# Altium schematic symbol library Apalis-Smart-Vision-Baseboard.SCHLIB: 164 symbols
Pins are listed as number, name and electrical type; pins without a type are passive.

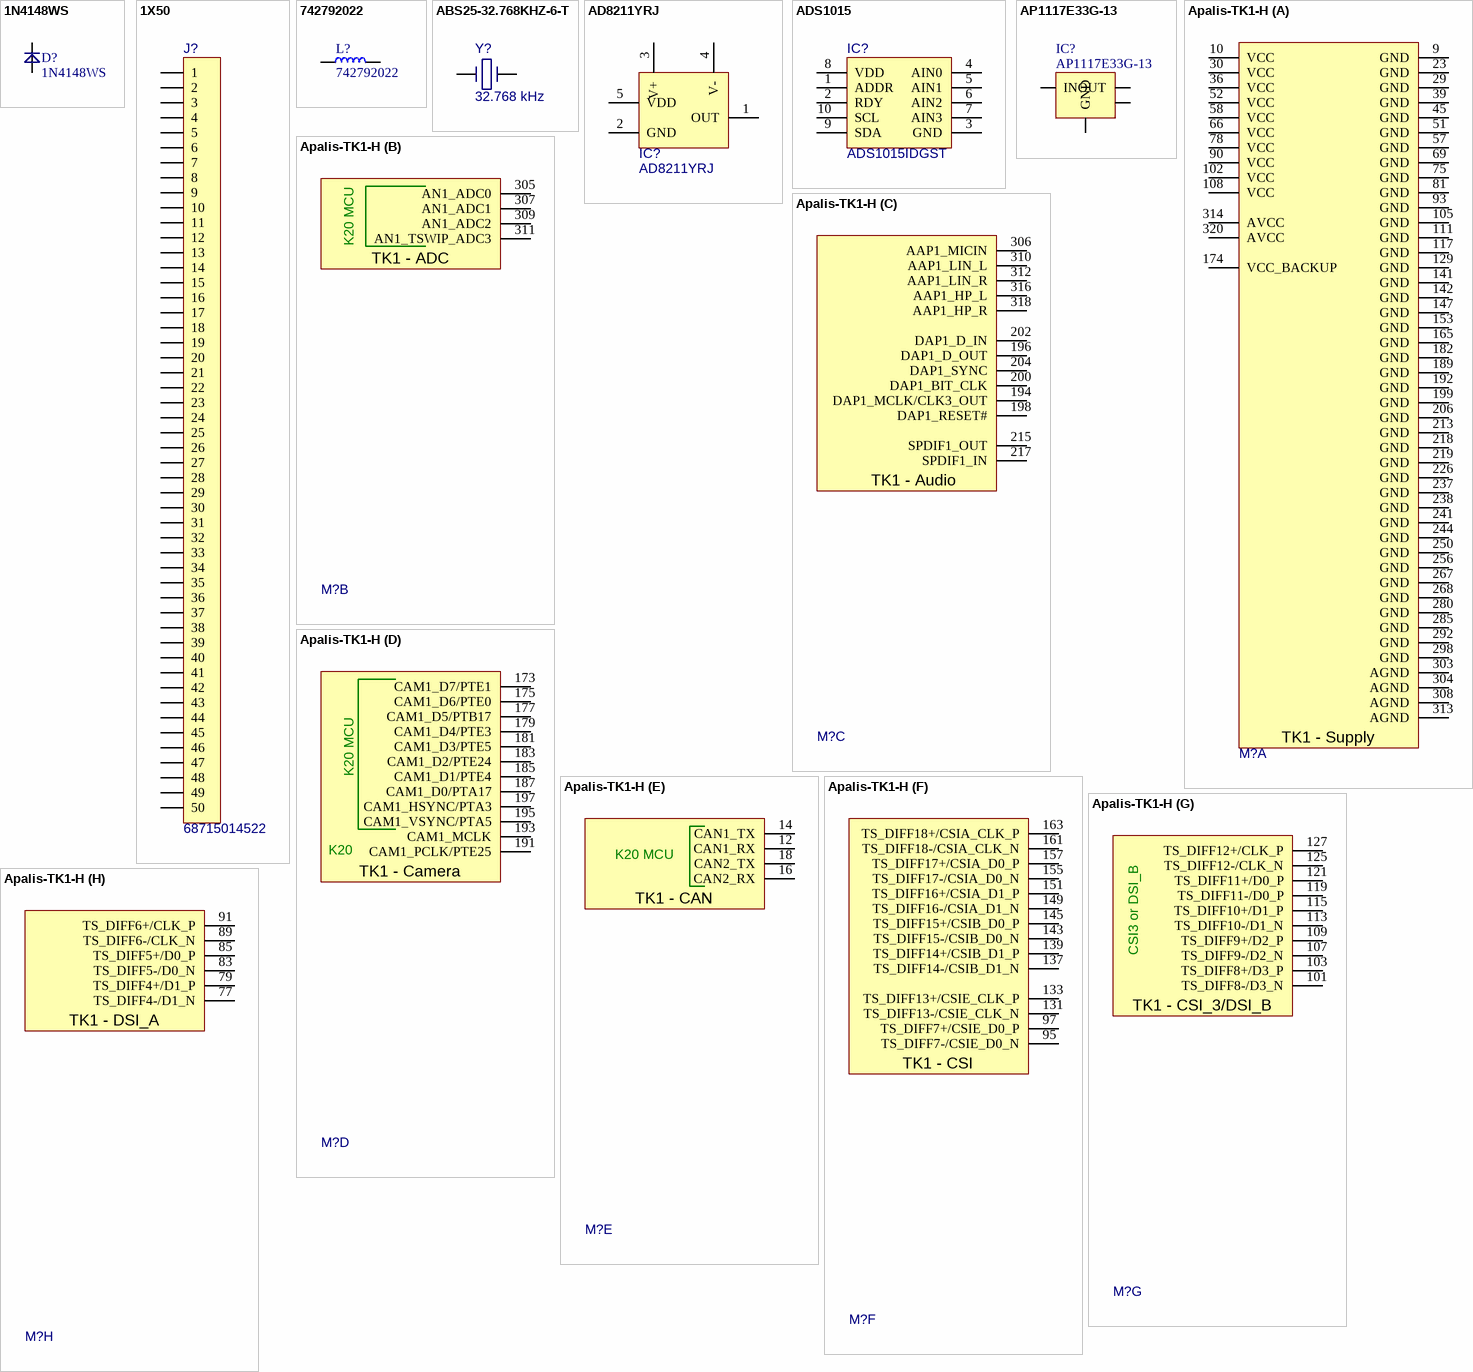
[diagram p0: symbols 1N4148WS to Apalis-TK1-H]

## 1N4148WS
designator D?
Diode small signal; Manufacturer: MULTICOMP; PartNumber: 1N4148WS; Value: 1N4148WS; PartSymbol: 1N4148WS
footprint SOD-323
pins: A, C

## 1X50
designator J?, comment 68715014522
0.50mm SMT ZIF Horizontal Bottom Contact WR-FPC; Manufacturer: WURTH ELEKTRONIK; Part Number: WE-687-150-145-22; Value: 68715014522; Part Symbol: 68715014522
footprint 68715014522
pins: 1, 2, 3, 4, 5, 6, 7, 8, 9, 10, 11, 12, 13, 14, 15, 16, 17, 18, 19, 20, 21, 22, 23, 24, 25, 26, 27, 28, 29, 30, 31, 32, 33, 34, 35, 36, 37, 38, 39, 40, 41, 42, 43, 44, 45, 46, 47, 48, 49, 50

## 742792022
designator L?
WURTH ELEKTRONIK - 742792022 - FERRITE BEAD, 0.05OHM, 2A, 0805; Part Number: 742792022; Value: 742792022; Manufacturer: WURTH ELEKTRONIK; Part Symbol: 742792022
footprint 0805
pins: 1, 2

## ABS25-32.768KHZ-6-T
designator Y?, comment 32.768 kHz
CRYSTAL, 32.768KHz, 6PF, SMD; Part Number: ABS25-32.768KHZ-6-T; Manufacturer: ABRACON; Part Symbol: ABS25-32.768KHZ-6-T; Value: 32.768 kHz
footprint ABS25
pins: 1, 2

## AD8211YRJ
designator IC?
Current Sense Amplifiers High Voltage Current Shunt Amplifier; Manufacturer: ANALOG DEVICES; Part Symbol: AD8211YRJ; Value: AD8211YRJ
pins: 1 OUT, 2 GND, 3 V+, 4 V-, 5 VDD

## ADS1015
designator IC?, comment ADS1015IDGST
ADC 12BIT 4CH I2C; Manufacturer: TEXAS INSTRUMENTS; Part Number: ADS1015IDGST; Value: ADS1015IDGST; Part Symbol: ADS1015IDGST
footprint MSOP10
pins: 1 ADDR, 2 RDY, 3 GND, 4 AIN0, 5 AIN1, 6 AIN2, 7 AIN3, 8 VDD, 9 SDA, 10 SCL

## AP1117E33G-13
designator IC?
IC, LDO, REG, 3.3V, SOT223; Manufacturer: DIODES INC.; Part Number: AP1117E33G-13; Part Symbol: AP1117E33G-13; Value: AP1117E33G-13
footprint SOT223
pins: 1 GND (power), 2 OUT, 3 IN (power), 4 OUT

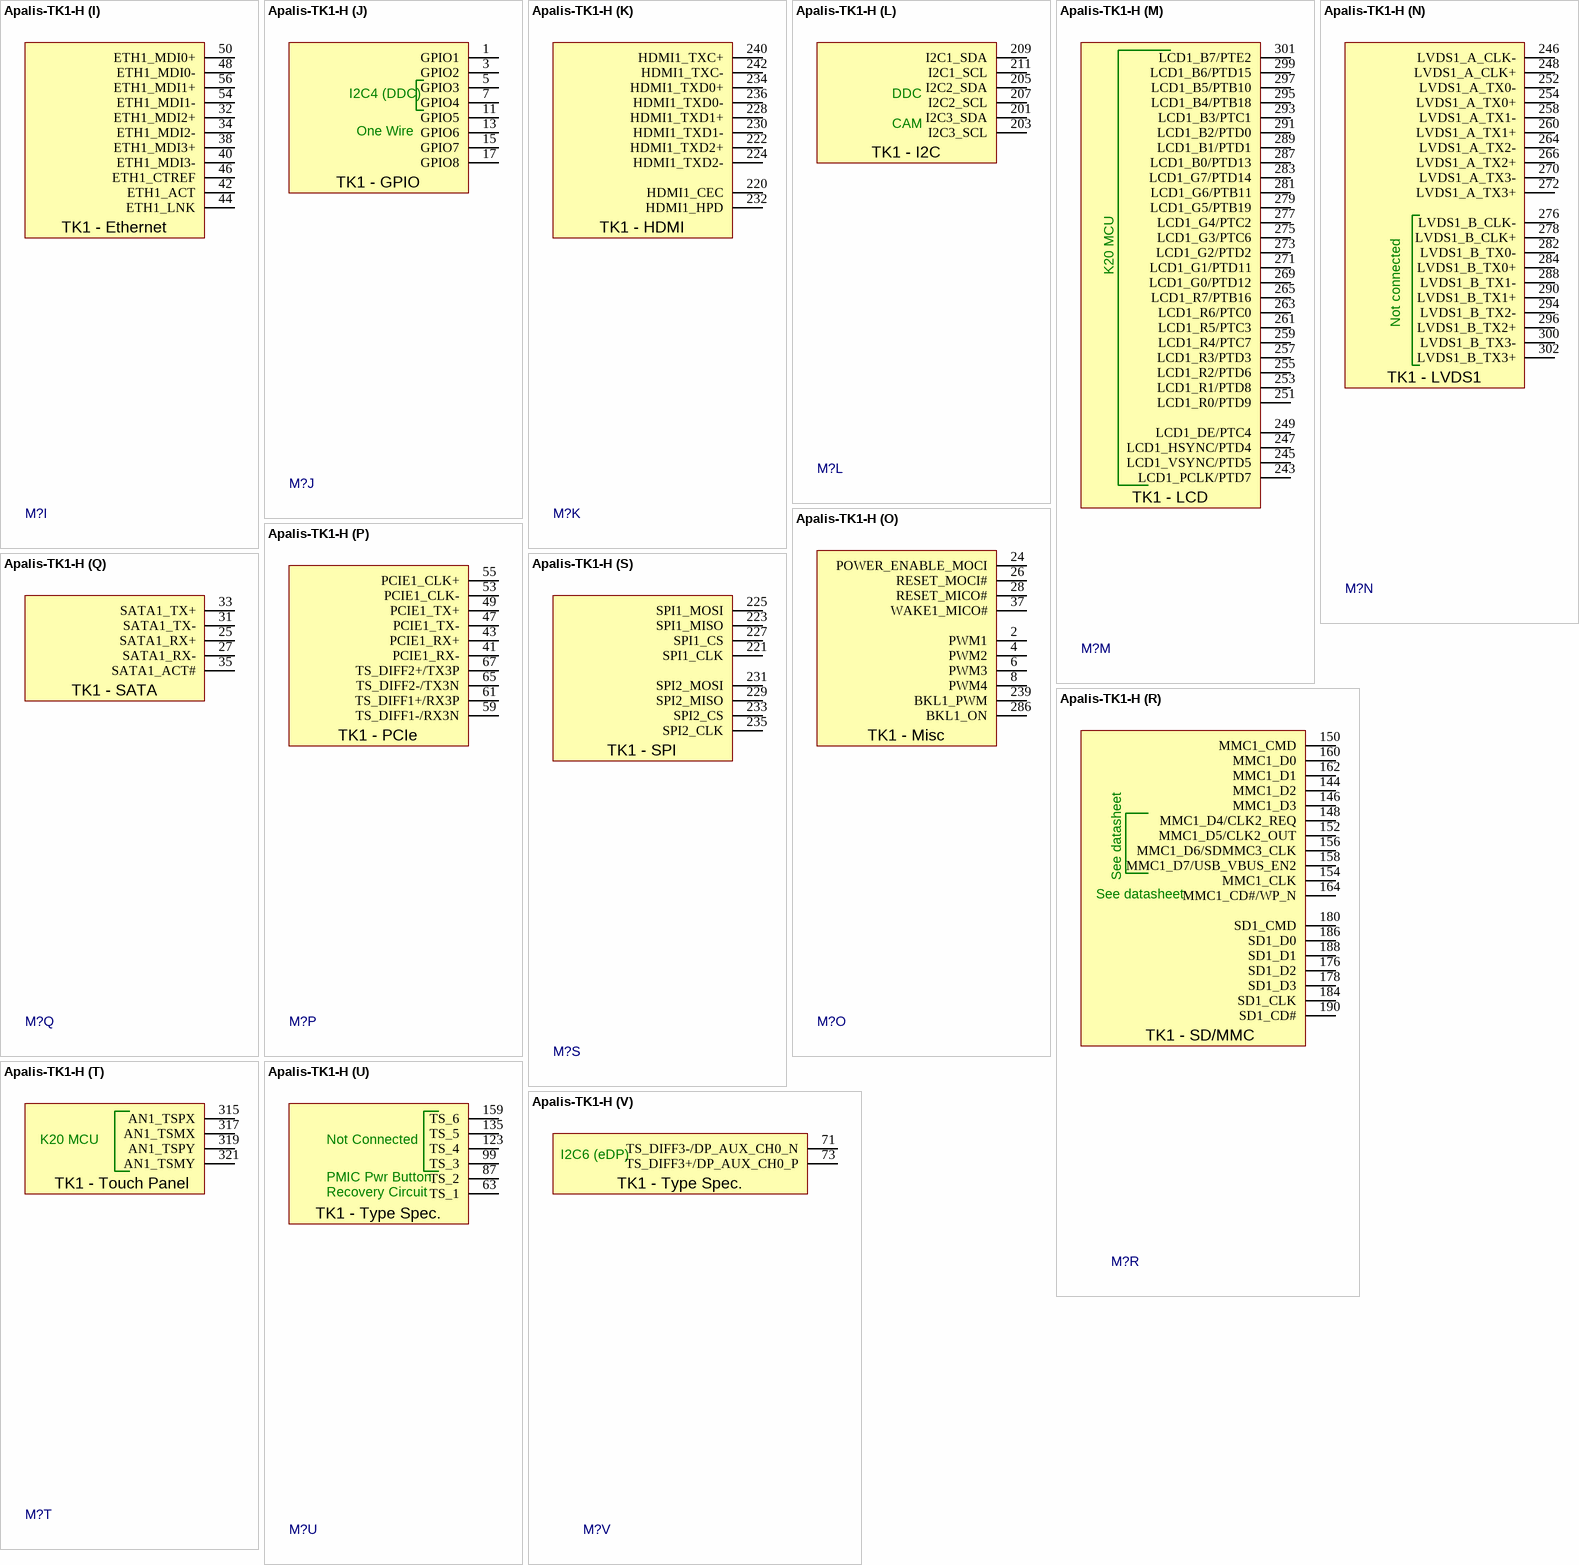
[diagram p1: symbol Apalis-TK1-H]

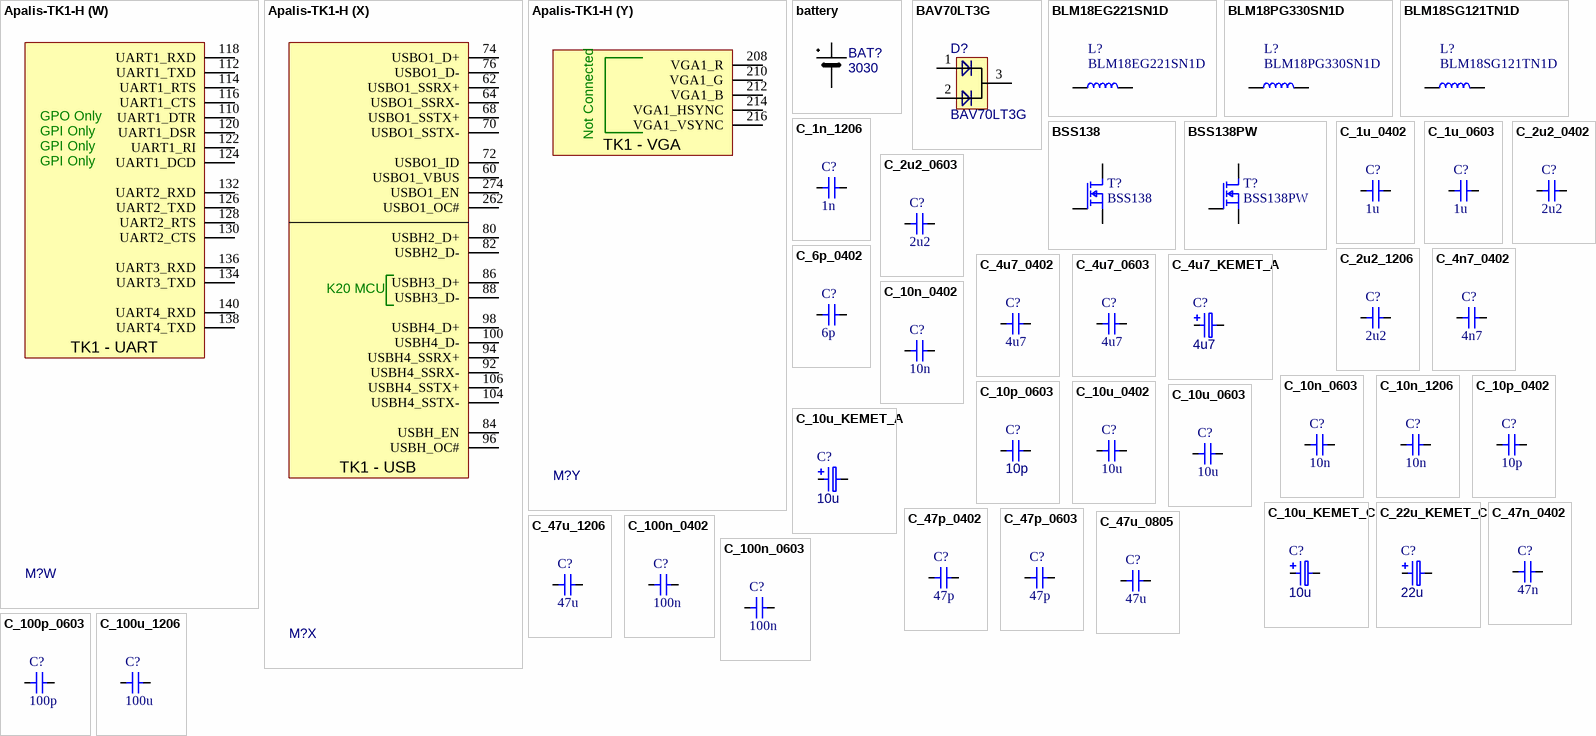
[diagram p2: symbols Apalis-TK1-H to C_100u_1206]

## Apalis-TK1-H
designator M?, comment MM70-314-310B1  (value not drawn)
Toradex Apalis TK1, Horizontal; Part Number: Apalis-TK1-H; Manufacturer: JAE Electronics; Part Symbol: MM70-314-310B1; Value: MM70-314-310B1
footprint Apalis-H
part A pins: 9 GND, 10 VCC, 23 GND, 29 GND (power), 30 VCC, 36 VCC, 39 GND (power), 45 GND (power), 51 GND (power), 52 VCC, 57 GND (power), 58 VCC, 66 VCC, 69 GND (power), 75 GND (power), 78 VCC, 81 GND (power), 90 VCC, 93 GND (power), 102 VCC, 105 GND (power), 108 VCC, 111 GND (power), 117 GND (power), 129 GND (power), 141 GND (power), 142 GND (power), 147 GND (power), 153 GND (power), 165 GND (power), 174 VCC_BACKUP, 182 GND (power), 189 GND (power), 192 GND (power), 199 GND (power), 206 GND (power), 213 GND (power), 218 GND (power), 219 GND (power), 226 GND (power), 237 GND (power), 238 GND (power), 241 GND (power), 244 GND (power), 250 GND (power), 256 GND (power), 267 GND (power), 268 GND (power), 280 GND (power), 285 GND (power), 292 GND (power), 298 GND (power), 303 AGND (power), 304 AGND (power), 308 AGND (power), 313 AGND, 314 AVCC (power), 320 AVCC
part B pins: 305 AN1_ADC0, 307 AN1_ADC1, 309 AN1_ADC2, 311 AN1_TSWIP_ADC3
part C pins: 194 DAP1_MCLK/CLK3_OUT, 196 DAP1_D_OUT, 198 DAP1_RESET#, 200 DAP1_BIT_CLK, 202 DAP1_D_IN, 204 DAP1_SYNC, 215 SPDIF1_OUT, 217 SPDIF1_IN, 306 AAP1_MICIN, 310 AAP1_LIN_L, 312 AAP1_LIN_R, 316 AAP1_HP_L, 318 AAP1_HP_R
part D pins: 173 CAM1_D7/PTE1, 175 CAM1_D6/PTE0, 177 CAM1_D5/PTB17, 179 CAM1_D4/PTE3, 181 CAM1_D3/PTE5, 183 CAM1_D2/PTE24, 185 CAM1_D1/PTE4, 187 CAM1_D0/PTA17, 191 CAM1_PCLK/PTE25, 193 CAM1_MCLK, 195 CAM1_VSYNC/PTA5, 197 CAM1_HSYNC/PTA3
part E pins: 12 CAN1_RX, 14 CAN1_TX, 16 CAN2_RX, 18 CAN2_TX
part F pins: 95 TS_DIFF7-/CSIE_D0_N, 97 TS_DIFF7+/CSIE_D0_P, 131 TS_DIFF13-/CSIE_CLK_N, 133 TS_DIFF13+/CSIE_CLK_P, 137 TS_DIFF14-/CSIB_D1_N, 139 TS_DIFF14+/CSIB_D1_P, 143 TS_DIFF15-/CSIB_D0_N, 145 TS_DIFF15+/CSIB_D0_P, 149 TS_DIFF16-/CSIA_D1_N, 151 TS_DIFF16+/CSIA_D1_P, 155 TS_DIFF17-/CSIA_D0_N, 157 TS_DIFF17+/CSIA_D0_P, 161 TS_DIFF18-/CSIA_CLK_N, 163 TS_DIFF18+/CSIA_CLK_P
part G pins: 101 TS_DIFF8-/D3_N, 103 TS_DIFF8+/D3_P, 107 TS_DIFF9-/D2_N, 109 TS_DIFF9+/D2_P, 113 TS_DIFF10-/D1_N, 115 TS_DIFF10+/D1_P, 119 TS_DIFF11-/D0_P, 121 TS_DIFF11+/D0_P, 125 TS_DIFF12-/CLK_N, 127 TS_DIFF12+/CLK_P
part H pins: 77 TS_DIFF4-/D1_N, 79 TS_DIFF4+/D1_P, 83 TS_DIFF5-/D0_N, 85 TS_DIFF5+/D0_P, 89 TS_DIFF6-/CLK_N, 91 TS_DIFF6+/CLK_P
part I pins: 32 ETH1_MDI2+, 34 ETH1_MDI2-, 38 ETH1_MDI3+, 40 ETH1_MDI3-, 42 ETH1_ACT, 44 ETH1_LNK, 46 ETH1_CTREF, 48 ETH1_MDI0-, 50 ETH1_MDI0+, 54 ETH1_MDI1-, 56 ETH1_MDI1+
part J pins: 1 GPIO1, 3 GPIO2, 5 GPIO3, 7 GPIO4, 11 GPIO5, 13 GPIO6, 15 GPIO7, 17 GPIO8
part K pins: 220 HDMI1_CEC, 222 HDMI1_TXD2+, 224 HDMI1_TXD2-, 228 HDMI1_TXD1+, 230 HDMI1_TXD1-, 232 HDMI1_HPD, 234 HDMI1_TXD0+, 236 HDMI1_TXD0-, 240 HDMI1_TXC+, 242 HDMI1_TXC-
part L pins: 201 I2C3_SDA, 203 I2C3_SCL, 205 I2C2_SDA, 207 I2C2_SCL, 209 I2C1_SDA, 211 I2C1_SCL
part M pins: 243 LCD1_PCLK/PTD7, 245 LCD1_VSYNC/PTD5, 247 LCD1_HSYNC/PTD4, 249 LCD1_DE/PTC4, 251 LCD1_R0/PTD9, 253 LCD1_R1/PTD8, 255 LCD1_R2/PTD6, 257 LCD1_R3/PTD3, 259 LCD1_R4/PTC7, 261 LCD1_R5/PTC3, 263 LCD1_R6/PTC0, 265 LCD1_R7/PTB16, 269 LCD1_G0/PTD12, 271 LCD1_G1/PTD11, 273 LCD1_G2/PTD2, 275 LCD1_G3/PTC6, 277 LCD1_G4/PTC2, 279 LCD1_G5/PTB19, 281 LCD1_G6/PTB11, 283 LCD1_G7/PTD14, 287 LCD1_B0/PTD13, 289 LCD1_B1/PTD1, 291 LCD1_B2/PTD0, 293 LCD1_B3/PTC1, 295 LCD1_B4/PTB18, 297 LCD1_B5/PTB10, 299 LCD1_B6/PTD15, 301 LCD1_B7/PTE2
part N pins: 246 LVDS1_A_CLK-, 248 LVDS1_A_CLK+, 252 LVDS1_A_TX0-, 254 LVDS1_A_TX0+, 258 LVDS1_A_TX1-, 260 LVDS1_A_TX1+, 264 LVDS1_A_TX2-, 266 LVDS1_A_TX2+, 270 LVDS1_A_TX3-, 272 LVDS1_A_TX3+, 276 LVDS1_B_CLK-, 278 LVDS1_B_CLK+, 282 LVDS1_B_TX0-, 284 LVDS1_B_TX0+, 288 LVDS1_B_TX1-, 290 LVDS1_B_TX1+, 294 LVDS1_B_TX2-, 296 LVDS1_B_TX2+, 300 LVDS1_B_TX3-, 302 LVDS1_B_TX3+
part O pins: 2 PWM1, 4 PWM2, 6 PWM3, 8 PWM4, 24 POWER_ENABLE_MOCI, 26 RESET_MOCI#, 28 RESET_MICO#, 37 WAKE1_MICO#, 239 BKL1_PWM, 286 BKL1_ON
part P pins: 41 PCIE1_RX-, 43 PCIE1_RX+, 47 PCIE1_TX-, 49 PCIE1_TX+, 53 PCIE1_CLK-, 55 PCIE1_CLK+, 59 TS_DIFF1-/RX3N, 61 TS_DIFF1+/RX3P, 65 TS_DIFF2-/TX3N, 67 TS_DIFF2+/TX3P
part Q pins: 25 SATA1_RX+, 27 SATA1_RX-, 31 SATA1_TX-, 33 SATA1_TX+, 35 SATA1_ACT#
part R pins: 144 MMC1_D2, 146 MMC1_D3, 148 MMC1_D4/CLK2_REQ, 150 MMC1_CMD, 152 MMC1_D5/CLK2_OUT, 154 MMC1_CLK, 156 MMC1_D6/SDMMC3_CLK, 158 MMC1_D7/USB_VBUS_EN2, 160 MMC1_D0, 162 MMC1_D1, 164 MMC1_CD#/WP_N, 176 SD1_D2, 178 SD1_D3, 180 SD1_CMD, 184 SD1_CLK, 186 SD1_D0, 188 SD1_D1, 190 SD1_CD#
part S pins: 221 SPI1_CLK, 223 SPI1_MISO, 225 SPI1_MOSI, 227 SPI1_CS, 229 SPI2_MISO, 231 SPI2_MOSI, 233 SPI2_CS, 235 SPI2_CLK
part T pins: 315 AN1_TSPX, 317 AN1_TSMX, 319 AN1_TSPY, 321 AN1_TSMY
part U pins: 63 TS_1, 87 TS_2, 99 TS_3, 123 TS_4, 135 TS_5, 159 TS_6
part V pins: 71 TS_DIFF3-/DP_AUX_CH0_N, 73 TS_DIFF3+/DP_AUX_CH0_P
part W pins: 110 UART1_DTR, 112 UART1_TXD, 114 UART1_RTS, 116 UART1_CTS, 118 UART1_RXD, 120 UART1_DSR, 122 UART1_RI, 124 UART1_DCD, 126 UART2_TXD, 128 UART2_RTS, 130 UART2_CTS, 132 UART2_RXD, 134 UART3_TXD, 136 UART3_RXD, 138 UART4_TXD, 140 UART4_RXD
part X pins: 60 USBO1_VBUS, 62 USBO1_SSRX+, 64 USBO1_SSRX-, 68 USBO1_SSTX+, 70 USBO1_SSTX-, 72 USBO1_ID, 74 USBO1_D+, 76 USBO1_D-, 80 USBH2_D+, 82 USBH2_D-, 84 USBH_EN, 86 USBH3_D+, 88 USBH3_D-, 92 USBH4_SSRX-, 94 USBH4_SSRX+, 96 USBH_OC#, 98 USBH4_D+, 100 USBH4_D-, 104 USBH4_SSTX-, 106 USBH4_SSTX+, 262 USBO1_OC#, 274 USBO1_EN
part Y pins: 208 VGA1_R, 210 VGA1_G, 212 VGA1_B, 214 VGA1_HSYNC, 216 VGA1_VSYNC
part A text: TK1 - Supply
part B text: K20 MCU; TK1 - ADC
part C text: TK1 - Audio
part D text: K20 MCU; K20; TK1 - Camera
part E text: K20 MCU; TK1 - CAN
part F text: TK1 - CSI
part G text: CSI3 or DSI_B; TK1 - CSI_3/DSI_B
part H text: TK1 - DSI_A
part I text: TK1 - Ethernet
part J text: I2C4 (DDC); One Wire; TK1 - GPIO
part K text: TK1 - HDMI
part L text: DDC; CAM; TK1 - I2C
part M text: K20 MCU; TK1 - LCD
part N text: Not connected; TK1 - LVDS1
part O text: TK1 - Misc
part P text: TK1 - PCIe
part Q text: TK1 - SATA
part R text: See datasheet; TK1 - SD/MMC
part S text: TK1 - SPI
part T text: K20 MCU; TK1 - Touch Panel
part U text: Not Connected; PMIC Pwr Button; Recovery Circuit; TK1 - Type Spec.
part V text: I2C6 (eDP); TK1 - Type Spec.
part W text: GPO Only; GPI Only; TK1 - UART
part X text: K20 MCU; TK1 - USB
part Y text: Not Connected; TK1 - VGA

## battery
designator BAT?, comment 3030
SMT holder for  CR1025 battery; Part Number: Keystone_CR1025; Manufacturer: Keystone; Value: 3030; Part Symbol: 3030
footprint KEYSTONE_CR1025
pins: +, -

## BAV70LT3G
designator D?
Dual switching diode, common cathode; Manufacturer: ON SEMICONDUCTOR; Part Number: BAV70LT3G; Value: BAV70LT3G; Part Symbol: BAV70LT3G
footprint SOT-23
pins: 1, 2, 3

## BLM18EG221SN1D
designator L?
FERRITE BEAD, 0.025OHM, 3A, 0603; Manufacturer: MURATA; Part Number: BLM18EG221SN1D; Value: BLM18EG221SN1D; Part Symbol: BLM18EG221SN1D
footprint 0603
pins: 1, 2

## BLM18PG330SN1D
designator L?
FERRITE BEAD, 0.025OHM, 3A, 0603; Manufacturer: MURATA; Part Number: BLM18PG330SN1D; Value: BLM18PG330SN1D; Part Symbol: BLM18PG330SN1D
footprint 0603
pins: 1, 2

## BLM18SG121TN1D
designator L?
FERRITE BEAD, 0.025OHM, 3A, 0603; Manufacturer: MURATA; Part Number: BLM18SG121TN1D; Value: BLM18SG121TN1D; Part Symbol: BLM18SG121TN1D
footprint 0603
pins: 1, 2

## BSS138
designator T?
MOSFET, N CH, 60V, 0.2A; Manufacturer: NXP; Value: BSS138; Part Number: BSS138; Part Symbol: BSS138
footprint SOT-23 (SOT23, 3-Leads, Body 2.90x2.45mm, Pitch 0.95mm, IPC Medium Density)
footprint SC70-3
pins: 1 G, 2 S, 3 D

## BSS138PW
designator T?
MOSFET, N CH, 60V, 0.2A; Manufacturer: NXP; Value: BSS138PW; Part Number: BSS138PW; Part Symbol: BSS138PW
footprint SOT-23 (SOT23, 3-Leads, Body 2.90x2.45mm, Pitch 0.95mm, IPC Medium Density)
footprint SC70-3
pins: 1 G, 2 S, 3 D

## C_1n_1206
designator C?, comment 1n
MLCC SMT Capacitor 1nF 1206; PartNumber: C_1n_1206; Manufacturer: AVX; PartSymbol: 12061A102JAT2A; Value: 1n
footprint 1206
pins: 1, 2
1 alternate drawing of the same symbol

## C_1u_0402
designator C?, comment 1u
MLCC SMT Capacitor 1uF 0402; Part Number: C_1u_0402; Manufacturer: MULTICOMP; Part Symbol: MC0402F105Z6R3CT; Value: 1u
footprint 0402
pins: 1, 2
1 alternate drawing of the same symbol

## C_1u_0603
designator C?, comment 1u
MLCC SMT Capacitor 1uF 0603; PartNumber: C_1u_0603; Manufacturer: KEMET; PartSymbol: C0603C105M4PACTU; Value: 1u
footprint 0603 (Chip Inductor Ferrite Bead 0603)
pins: 1, 2
1 alternate drawing of the same symbol

## C_2u2_0402
designator C?, comment 2u2
MLCC SMT Capacitor 2.2uF 0402; PartNumber: C_2u2_0402; Manufacturer: TDK; PartSymbol: C1005X5R1A225K050BC; Value: 2u2
footprint 0402
pins: 1, 2
1 alternate drawing of the same symbol

## C_2u2_0603
designator C?, comment 2u2
MLCC SMT Capacitor 2.2uF 0603; PartNumber: C_2u2_0603; Manufacturer: TDK; PartSymbol: C1005X5R1A225K050BC; Value: 2u2
footprint 0603 (Chip Inductor Ferrite Bead 0603)
pins: 1, 2
1 alternate drawing of the same symbol

## C_2u2_1206
designator C?, comment 2u2
MLCC SMT Capacitor 2.2uF 1206; PartNumber: C_2u2_1206; Manufacturer: KEMET; PartSymbol: C1206C225J5RACTU; Value: 2u2
footprint 1206
pins: 1, 2
1 alternate drawing of the same symbol

## C_4n7_0402
designator C?, comment 4n7
MLCC SMT Capacitor 4.7 nF 0402; PartNumber: C_4n7_0402; Manufacturer: TDK; PartSymbol: CGA2B3X7S2A472K050BB; Value: 4n7
footprint 0402
pins: 1, 2
1 alternate drawing of the same symbol

## C_4u7_0402
designator C?, comment 4u7
MLCC SMT Capacitor 4.7uF 0402; Part Number: C_4u7_0402; Manufacturer: MURATA; Part Symbol: GRM155R60G475ME; Value: 4u7
footprint 0402
pins: 1, 2
1 alternate drawing of the same symbol

## C_4u7_0603
designator C?, comment 4u7
MLCC SMT Capacitor 4.7uF 0603; Part Number: C_4u7_0603; Manufacturer: MULTICOMP; Part Symbol: MC0603X475K6R3CT; Value: 4u7
footprint 0603 (Chip Inductor Ferrite Bead 0603)
pins: 1, 2
1 alternate drawing of the same symbol

## C_4u7_KEMET_A
designator C?, comment 4u7
Tantalum SMT Capacitor 4u7F Case KEMET_A; Part Number: C_4u7_KEMET_A; Manufacturer: KEMET; Part Symbol: T491A475K010AT; Value: 4u7
footprint KEMET_A
pins: 1, 2
1 alternate drawing of the same symbol

## C_6p_0402
designator C?, comment 6p
MLCC SMT Capacitor 6pF 0402; Part Number: C_6p_0402; Manufacturer: WALSIN; Part Symbol: 0402N6R0D500CT; Value: 6p
footprint 0402
pins: 1, 2
1 alternate drawing of the same symbol

## C_10n_0402
designator C?, comment 10n
MLCC SMT Capacitor 10 nF 0402; Part Number: C_10n_0402; Manufacturer: AVX; Part Symbol: 04025G103ZAT2A; Value: 10n
footprint 0402
pins: 1, 2
1 alternate drawing of the same symbol

## C_10n_0603
designator C?, comment 10n
MLCC SMT Capacitor 10 nF 0603; PartNumber: C_10n_0603; Manufacturer: AVX; PartSymbol: 06031C103JAT2A; Value: 10n
footprint 0603 (Chip Inductor Ferrite Bead 0603)
pins: 1, 2
1 alternate drawing of the same symbol

## C_10n_1206
designator C?, comment 10n
MLCC SMT Capacitor 10nF 1206; PartNumber: C_10n_1206; Manufacturer: MULTICOMP; PartSymbol: MC1206B103K631CT; Value: 10n
footprint 1206
pins: 1, 2
1 alternate drawing of the same symbol

## C_10p_0402
designator C?, comment 10p
MLCC SMT Capacitor 10pF 0402; Part Number: C_10p_0402; Manufacturer: MULTICOMP; Part Symbol: MC0402N100D500CT; Value: 10p
footprint 0402
pins: 1, 2
1 alternate drawing of the same symbol

## C_10p_0603
designator C?, comment 10p
MLCC SMT Capacitor 10pF 0603; Part Number: C_10p_0603; Manufacturer: JOHANSON TECHNOLOGY; Part Symbol: 251R14S100GV4T; Value: 10p
footprint 0603
pins: 1, 2
1 alternate drawing of the same symbol

## C_10u_0402
designator C?, comment 10u
MLCC SMT Capacitor 10uF 0402; Part Number: C_10u_0402; Manufacturer: TDK; Part Symbol: C1005X5R0J106M050BC; Value: 10u
footprint 0402
pins: 1, 2
1 alternate drawing of the same symbol

## C_10u_0603
designator C?, comment 10u
MLCC SMT Capacitor 10uF 0603; Part Number: C_10u_0603; Manufacturer: Walsin; Part Symbol: 0603X106M6R3CT; Value: 10u
footprint 0603 (Chip Inductor Ferrite Bead 0603)
pins: 1, 2
1 alternate drawing of the same symbol

## C_10u_KEMET_A
designator C?, comment 10u
Tantalum SMT Capacitor 10uF Case KEMET_A; Part Number: C_10u_KEMET_A; Manufacturer: VISHAY; Part Symbol: 293D106X9016A2TE3; Value: 10u
footprint KEMET_A
pins: 1, 2
1 alternate drawing of the same symbol

## C_10u_KEMET_C
designator C?, comment 10u
Tantalum SMT Capacitor 10uF Case KEMET_C; Part Number: C_10u_KEMET_C; Manufacturer: KEMET; Part Symbol: T491C106K025AT; Value: 10u
footprint KEMET_C
pins: 1, 2
1 alternate drawing of the same symbol

## C_22u_KEMET_C
designator C?, comment 22u
Tantalum SMT Capacitor 22uF Case KEMET_C; Part Number: C_22u_KEMET_C; Manufacturer: KEMET; Part Symbol: T491C226K025AT; Value: 22u
footprint KEMET_C
pins: 1, 2
1 alternate drawing of the same symbol

## C_47n_0402
designator C?, comment 47n
MLCC SMT Capacitor 47nF 0402; PartNumber: C_47n_0402; Manufacturer: MULTICOMP; PartSymbol: MC0402X473K160CT; Value: 47n
footprint 0402
pins: 1, 2
1 alternate drawing of the same symbol

## C_47p_0402
designator C?, comment 47p
MLCC SMT Capacitor 47pF 0402; PartNumber: C_47p_0402; Manufacturer: KEMET; PartSymbol: C0402C470J5GACTU; Value: 47p
footprint 0402
pins: 1, 2
1 alternate drawing of the same symbol

## C_47p_0603
designator C?, comment 47p
MLCC SMT Capacitor 47pF 0603; PartNumber: C_47p_0603; Manufacturer: AVX; PartSymbol: 06031A470KAT2A; Value: 47p
footprint 0603 (Chip Inductor Ferrite Bead 0603)
pins: 1, 2
1 alternate drawing of the same symbol

## C_47u_0805
designator C?, comment 47u
MLCC SMT Capacitor 47uF 0805; PartNumber: C_47u_0805; Manufacturer: KEMET; PartSymbol: C0805C476M9PACTU; Value: 47u
footprint 0805
pins: 1, 2
1 alternate drawing of the same symbol

## C_47u_1206
designator C?, comment 47u
MLCC SMT Capacitor 47uF 1206; Part Number: C_47u_1206; Manufacturer: MURATA; Part Symbol: GRM31CC80J476KE18L; Value: 47u
footprint 1206
pins: 1, 2
1 alternate drawing of the same symbol

## C_100n_0402
designator C?, comment 100n
MLCC SMT Capacitor 100n 0402; Part Number: C_100n_0402; Manufacturer: TDK; Part Symbol: C1005X5R0J104K050BA; Value: 100n
footprint 0402
pins: 1, 2
1 alternate drawing of the same symbol

## C_100n_0603
designator C?, comment 100n
MLCC SMT Capacitor 100nF 0603; PartNumber: C_100n_0603; Manufacturer: AVX; PartSymbol: 0603YC104KAZ2A; Value: 100n
footprint 0603 (Chip Inductor Ferrite Bead 0603)
pins: 1, 2
1 alternate drawing of the same symbol

## C_100p_0603
designator C?, comment 100p
MLCC SMT Capacitor 100pF 0603; PartNumber: C_100p_0603; Manufacturer: Walsin; PartSymbol: 0603N101J500CT; Value: 100p
footprint 0603 (Chip Inductor Ferrite Bead 0603)
pins: 1, 2
1 alternate drawing of the same symbol

## C_100u_1206
designator C?, comment 100u
MLCC SMT Capacitor 100uF 1206; PartNumber: C_100u_1206; Manufacturer: Vishay; PartSymbol: TMCMA0J107MTRF; Value: 100u
footprint 1206
pins: 1, 2
1 alternate drawing of the same symbol

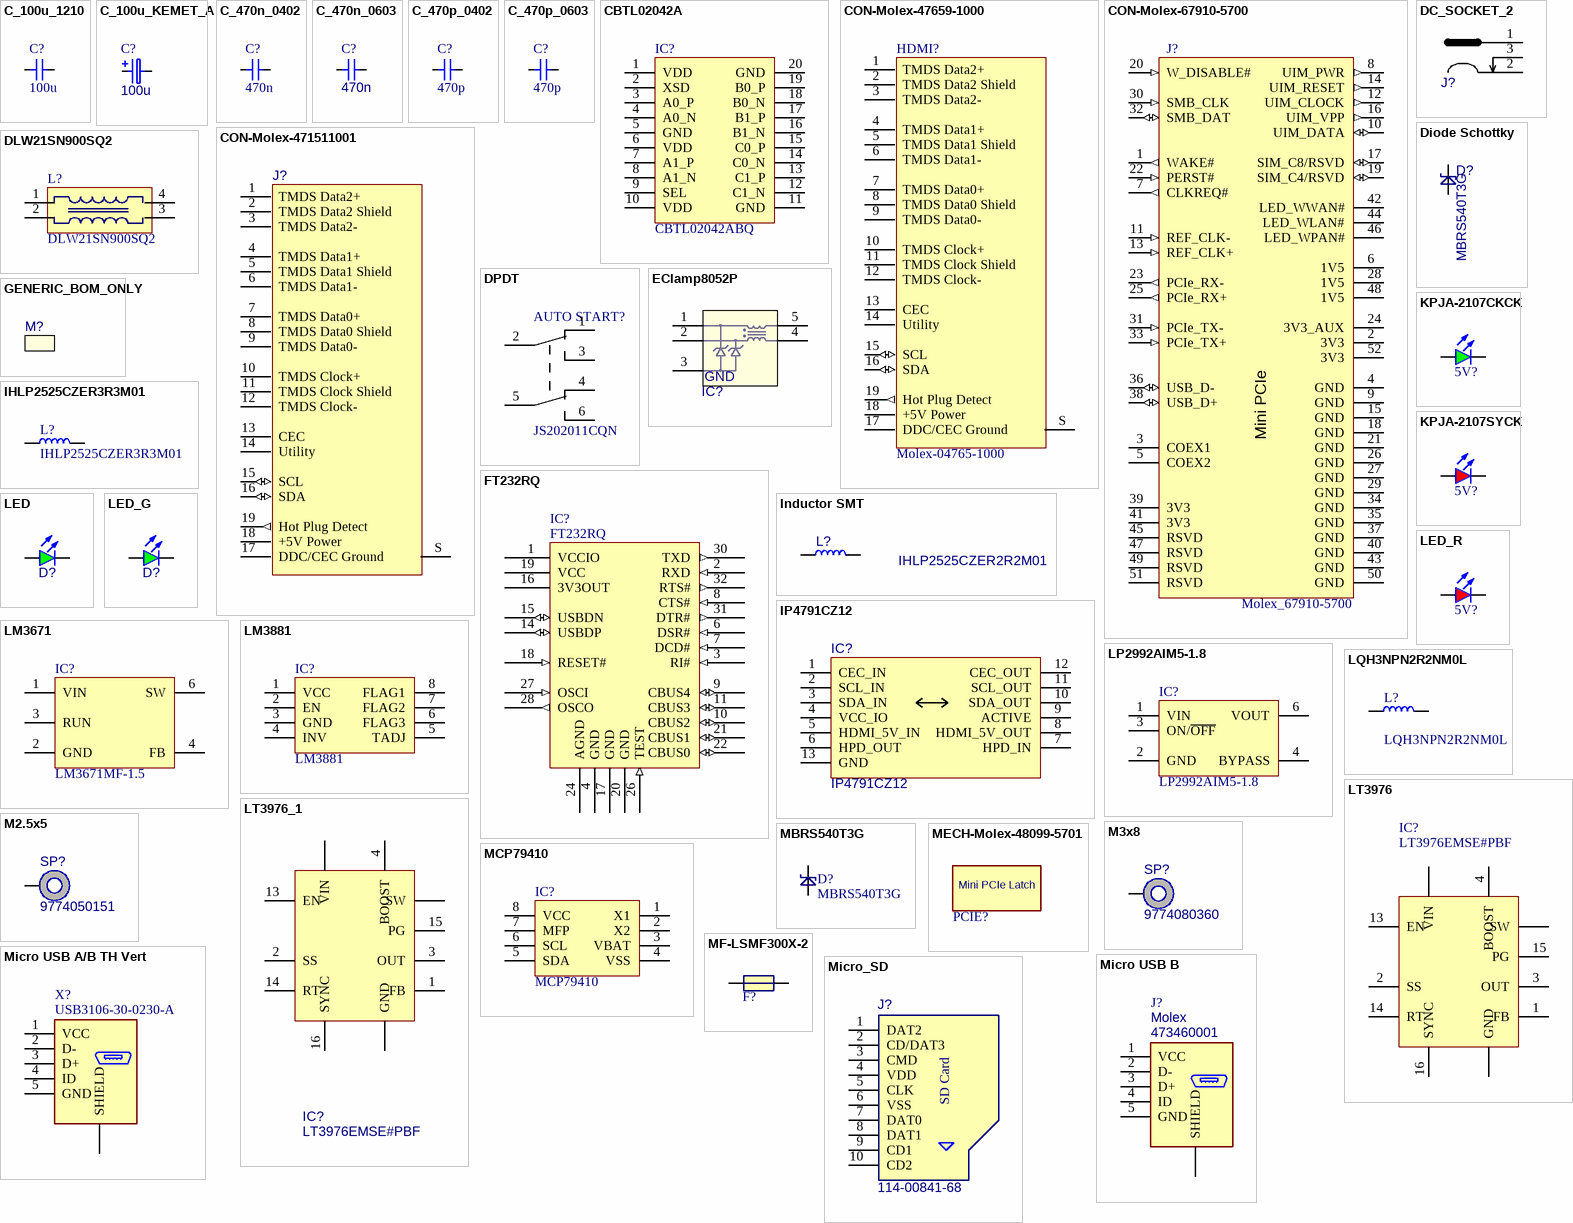
[diagram p3: symbols C_100u_1210 to Micro_SD]

## C_100u_1210
designator C?, comment 100u
MLCC SMT Capacitor 100uF 1210; PartNumber: C_100u_1210; Manufacturer: SAMSUNG; PartSymbol: CL32A107MQVNNNE; Value: 100u
footprint 1210
pins: 1, 2
1 alternate drawing of the same symbol

## C_100u_KEMET_A
designator C?, comment 100u
Tantalum SMT Capacitor 100uF Case KEMET_A; Part Number: C_100u_KEMET_A; Manufacturer: VISHAY; Part Symbol: 298D107X06R3A2T; Value: 100u
footprint KEMET_A
pins: 1, 2
1 alternate drawing of the same symbol

## C_470n_0402
designator C?, comment 470n
MLCC SMT Capacitor 470n 0402; Part Number: C_470n_0402; Manufacturer: TDK; Part Symbol: MC0402X474K6R3CT; Value: 470n
footprint 0402
pins: 1, 2
1 alternate drawing of the same symbol

## C_470n_0603
designator C?, comment 470n
MLCC SMT Capacitor 470nF 0603; Part Number: C_470n_0603; Manufacturer: TDK; Part Symbol: C1608X5R1H474K080AB; Value: 470n
footprint 0603
pins: 1, 2
1 alternate drawing of the same symbol

## C_470p_0402
designator C?, comment 470p
MLCC SMT Capacitor 470pF 0402; Part Number: C_470p_0402; Manufacturer: MULTICOMP; Part Symbol: MC0402B471J500CT; Value: 470p
footprint 0402
pins: 1, 2
1 alternate drawing of the same symbol

## C_470p_0603
designator C?, comment 470p
MLCC SMT Capacitor 470pF 0603; PartNumber: C_470p_0603; Manufacturer: AVX; PartSymbol: 06031C471JAT2A; Value: 470p
footprint 0603 (Chip Inductor Ferrite Bead 0603)
pins: 1, 2
1 alternate drawing of the same symbol

## CBTL02042A
designator IC?, comment CBTL02042ABQ
IC MUX/DEMUX 2:1 PCI 20DHVQFN; Manufacturer: NXP Semiconductors; Part Symbol: CBTL02042ABQ,115; Part Number: CBTL02042ABQ; Value: CBTL02042ABQ
footprint DHVQFN20
pins: 1 VDD, 2 XSD, 3 A0_P, 4 A0_N, 5 GND, 6 VDD, 7 A1_P, 8 A1_N, 9 SEL, 10 VDD, 11 GND, 12 C1_N, 13 C1_P, 14 C0_N, 15 C0_P, 16 B1_N, 17 B1_P, 18 B0_N, 19 B0_P, 20 GND

## CON-Molex-47659-1000
designator HDMI?, comment Molex-04765-1000
HDMI connector vertical; Part Number: CON-Molex-47659-1000; Manufacturer: Molex; Part Symbol: 47659-1000; Value: Molex-04765-1000
footprint CON-Molex-04765-1000
pins: 1 TMDS Data2+, 2 TMDS Data2 Shield, 3 TMDS Data2-, 4 TMDS Data1+, 5 TMDS Data1 Shield, 6 TMDS Data1-, 7 TMDS Data0+, 8 TMDS Data0 Shield, 9 TMDS Data0-, 10 TMDS Clock+, 11 TMDS Clock Shield, 12 TMDS Clock-, 13 CEC, 14 Utility, 15 SCL (io), 16 SDA (io), 17 DDC/CEC Ground (power), 18 +5V Power (power), 19 Hot Plug Detect (out), S SH

## CON-Molex-67910-5700
designator J?, comment Molex_67910-5700
PCIe Mini Card Holder 4mm; Part Number: CON-Molex-67910-5700; Manufacturer: Molex; Value: Molex_67910-5700; Part Symbol: 67910-5700
footprint T_Molex_67910-5700 (Molex PCIe mini card connector with clip)
pins: 1 WAKE# (out), 2 3V3 (power), 3 COEX1, 4 GND (power), 5 COEX2, 6 1V5 (power), 7 CLKREQ# (out), 8 UIM_PWR (out), 9 GND (power), 10 UIM_DATA (io), 11 REF_CLK- (in), 12 UIM_CLOCK (out), 13 REF_CLK+ (in), 14 UIM_RESET (out), 15 GND (power), 16 UIM_VPP (out), 17 SIM_C8/RSVD (io), 18 GND (power), 19 SIM_C4/RSVD (io), 20 W_DISABLE# (in), 21 GND (power), 22 PERST# (in), 23 PCIe_RX- (out), 24 3V3_AUX (power), 25 PCIe_RX+ (out), 26 GND (power), 27 GND (power), 28 1V5 (power), 29 GND (power), 30 SMB_CLK (in), 31 PCIe_TX- (in), 32 SMB_DAT (io), 33 PCIe_TX+ (in), 34 GND (power), 35 GND (power), 36 USB_D- (io), 37 GND (power), 38 USB_D+ (io), 39 3V3, 40 GND (power), 41 3V3, 42 LED_WWAN# (oc), 43 GND (power), 44 LED_WLAN# (oc), 45 RSVD, 46 LED_WPAN# (oc), 47 RSVD, 48 1V5 (power), 49 RSVD, 50 GND (power), 51 RSVD, 52 3V3 (power)
text: Mini PCIe

## CON-Molex-471511001
designator J?
Header right angle HDMI; Part Number: CON-Molex-471511001; Manufacturer: MOLEX; Part Symbol: 47151-1001
footprint Molex_HDMI_471511001
pins: 1 TMDS Data2+, 2 TMDS Data2 Shield, 3 TMDS Data2-, 4 TMDS Data1+, 5 TMDS Data1 Shield, 6 TMDS Data1-, 7 TMDS Data0+, 8 TMDS Data0 Shield, 9 TMDS Data0-, 10 TMDS Clock+, 11 TMDS Clock Shield, 12 TMDS Clock-, 13 CEC, 14 Utility, 15 SCL (io), 16 SDA (io), 17 DDC/CEC Ground (power), 18 +5V Power (power), 19 Hot Plug Detect (out), S SH

## DC_SOCKET_2
designator J?, comment 694106106102  (value not drawn)
DC Power Jack Right Angled SMT with 4 soldering pads & pegs WR-DC; Part Number: WE-694106106102; Manufacturer: WURTH ELEKTRONIK; Value: 694106106102; Part Symbol: 694106106102
footprint 694106106102
pins: 1, 2, 3

## Diode Schottky
designator D?, comment MBRS540T3G
ON SEMICONDUCTOR  MBRS540T3G  Rectifier Diode, Single, 40 V, 5 A, 500 mV, 190 A, 150 °C; Part Number: MBRS540T3G; Value: MBRS540T3G; Manufacturer: ON SEMICONDUCTOR; Part Symbol: MBRS540T3G
footprint SMC-403-03
pins: A, C

## DLW21SN900SQ2
designator L?
Common mode choke; Manufacturer: MURATA; Part Symbol: DLW21SN900SQ2L; Part Number: DLW21SN900SQ2; Value: DLW21SN900SQ2
footprint DLW21SN900SQ2
pins: 1, 2, 3, 4

## DPDT
designator AUTO START?, comment JS202011CQN
Sub-Miniature Slide Switch; Manufacturer: C&K; Value: JS202011CQN
footprint JS202011CQN
pins: 1, 2, 3, 4, 5, 6

## EClamp8052P
designator IC?  (value not drawn)
2-Line Common Mode Filter and Low Capacitance ESD Protection for MIPI USB; Manufacturer: SEMTECH; Part Symbol: ECLAMP8052P.TCT; Part Number: EClamp8052P; Value: EClamp8052P
footprint SGP1917N5
pins: 1, 2, 3 GND, 4, 5
1 alternate drawing of the same symbol

## FT232RQ
designator IC?
USB to serial UART interface; Manufacturer: FTDI; Part Symbol: FT232RQ-REEL; Part Number: FT232RQ; Value: FT232RQ
footprint QFN-32
pins: 1 VCCIO (power), 2 RXD (in), 3 RI# (in), 4 GND (power), 6 DSR# (in), 7 DCD# (in), 8 CTS# (in), 9 CBUS4 (io), 10 CBUS2 (io), 11 CBUS3 (io), 14 USBDP (io), 15 USBDN (io), 16 3V3OUT (power), 17 GND (power), 18 RESET# (in), 19 VCC (power), 20 GND (power), 21 CBUS1 (io), 22 CBUS0 (io), 24 AGND (power), 26 TEST (in), 27 OSCI (in), 28 OSCO (out), 30 TXD (out), 31 DTR# (out), 32 RTS# (out)

## GENERIC_BOM_ONLY
designator M?  (value not drawn)  (mechanical)
Manufacturer: Dremec; Part Symbol: 316/3.2x07

## IHLP2525CZER3R3M01
designator L?
3.3 µH, ± 20%, Shielded, 0.02 ohm, 8 A; Manufacturer: VISHAY; Part Number: IHLP2525CZER3R3M01; Value: IHLP2525CZER3R3M01; Part Symbol: IHLP2525CZER3R3M01
footprint IHLP-2525CZ-01
pins: 1, 2

## Inductor SMT
designator L?, comment IHLP2525CZER2R2M01
VISHAY DALE  IHLP2525CZER3R3M01  Surface Mount Power Inductor, IHLP-2525CZ-01 Series, 3.3 uH,  20%, Shielded, 0.03 ohm, 6 A; Part Number: IHLP2525CZER2R2M01; Value: IHLP2525CZER2R2M01; Manufacturer: VISHAY; Part Symbol: IHLP2525CZER3R3M01
footprint IHLP-2525CZ-01
pins: 1, 2

## IP4791CZ12
designator IC?
HDMI DEVICE, ESD PROTECTION; Manufacturer: NXP; Part Number: IP4791CZ12; Value: IP4791CZ12; Part Symbol: IP4791CZ12
footprint IP4791CZ12
pins: 1 CEC_IN, 2 SCL_IN, 3 SDA_IN, 4 VCC_IO, 5 HDMI_5V_IN, 6 HPD_OUT, 7 HPD_IN, 8 HDMI_5V_OUT, 9 ACTIVE, 10 SDA_OUT, 11 SCL_OUT, 12 CEC_OUT, 13 GND

## KPJA-2107CKCK
designator 5V?  (value not drawn)
LED Green 0603 case; Part Number: LED_G; Manufacturer: KINGBRIGHT; Value: KPJA-2107CKCK; Part Symbol: KPJA-2107CKCK
footprint KPJA-2107
pins: A, K

## KPJA-2107SYCK
designator 5V?  (value not drawn)
LED Red 0603 case; Part Number: LED_R; Manufacturer: KINGBRIGHT; Value: KPJA-2107SYCK; Part Symbol: KPJA-2107SYCK
footprint KPJA-2107
pins: A, K

## LED
designator D?, comment KPT-1608SGC  (value not drawn)
LED Green 0603 case; Part Number: LED_G; Manufacturer: KINGBRIGHT; Value: KPT-1608SGC; Part Symbol: KPT-1608SGC
footprint LED0603
pins: A, K

## LED_G
designator D?, comment KPT-1608SGC  (value not drawn)
LED Green 0603 case; Part Number: LED_G; Manufacturer: KINGBRIGHT; Value: KPT-1608SGC; Part Symbol: KPT-1608SGC
footprint LED0603
pins: A, K

## LED_R
designator 5V?, comment KPT-1608EC  (value not drawn)
LED Red 0603 case; Part Number: LED_R; Manufacturer: KINGBRIGHT; Value: KPT-1608EC; Part Symbol: KPT-1608EC
footprint LED0603
pins: A, K

## LM3671
designator IC?, comment LM3671MF-1.5
DC/DC Buck Converter; Manufacturer: TEXAS INSTRUMENTS; Part Symbol: LM3671MF-1.5/NOPB; Part Number: LM3671MF-1.5; Value: LM3671MF-1.5
footprint SOT23-5N
pins: 1 VIN, 2 GND, 3 RUN, 4 FB, 6 SW

## LM3881
designator IC?
TEXAS INSTRUMENTS  LM3881MME/NOPB  Power Sequencer, 3-Monitors, 2.7V-5.5Vin,VSSOP-8; Part Number: LM3881; Value: LM3881; Manufacturer: TEXAS INSTRUMENTS; Part Symbol: LM3881MME
footprint MSOP-8
pins: 1 VCC, 2 EN (power), 3 GND (power), 4 INV, 5 TADJ (power), 6 FLAG3, 7 FLAG2, 8 FLAG1

## LP2992AIM5-1.8
designator IC?
LDO 1.8V 250mA; Manufacturer: TEXAS INSTRUMENTS; Part Symbol: LP2992AIM5-1.8/NOPB; Part Number: LP2992AIM5-1.8; Value: LP2992AIM5-1.8
footprint SOT23-5N
pins: 1 VIN, 2 GND, 3 ON/~{OFF}, 4 BYPASS, 6 VOUT

## LQH3NPN2R2NM0L
designator L?
INDUCTOR, 2.2 µH, ± 30%, 1212, 90 MHz, 0.073 ohm; Manufacturer: MURATA; Part Number: LQH3NPN2R2NM0L; Value: LQH3NPN2R2NM0L; Part Symbol: LQH3NPN2R2NM0L
footprint LQH3NPN2R2NM
pins: 1, 2

## LT3976
designator IC?, comment LT3976EMSE#PBF
LINEAR TECHNOLOGY  LT3976EMSE#PBF  DC-DC CONVERTER, 2MHZ, 5A, MSOP-16; Part Number: LT3976EMSE#PBF; Value: LT3976EMSE#PBF; Manufacturer: LINEAR TECHNOLOGY; Part Symbol: LT3976EMSE#PBF
footprint MSOP-16
footprint LT3976EMSE
pins: 1 FB, 2 SS, 3 OUT, 4 BOOST, 13 EN, 14 RT, 15 PG, 16 SYNC, GND, SW, VIN

## LT3976_1
designator IC?, comment LT3976EMSE#PBF
LINEAR TECHNOLOGY  LT3976EMSE#PBF  DC-DC CONVERTER, 2MHZ, 5A, MSOP-16; Part Number: LT3976EMSE#PBF; Value: LT3976EMSE#PBF; Manufacturer: LINEAR TECHNOLOGY; Part Symbol: LT3976EMSE#PBF
footprint MSOP-16
footprint LT3976EMSE
pins: 1 FB, 2 SS, 3 OUT, 4 BOOST, 13 EN, 14 RT, 15 PG, 16 SYNC, GND, SW, VIN

## M2.5x5
designator SP?, comment 9774050151
M2.5x5; Manufacturer: WURTH ELEKTRONIK; Part Number: 9774050151; Value: 9774050151; Part Symbol: 9774050151
footprint M2.5-5mm (SMT Steel Spacer, M2.5 Thread Internal, 5mm)
pins: 1

## M3x8
designator SP?, comment 9774080360
M2.5x5; Manufacturer: WURTH ELEKTRONIK; Part Number: 9774080360; Value: 9774080360; Part Symbol: 9774080360
footprint M3-8mm (SMT Steel Spacer, M3 Thread Internal, 8mm)
pins: 1

## MBRS540T3G
designator D?
ON SEMICONDUCTOR  MBRS540T3G  Rectifier Diode, Single, 40 V, 5 A, 500 mV, 190 A, 150 °C; Part Number: MBRS540T3G; Value: MBRS540T3G; Manufacturer: ON SEMICONDUCTOR; Part Symbol: MBRS540T3G
footprint SMC-403-03
pins: A, C

## MCP79410
designator IC?
RTC timer with EEPROM and I2C interface; Manufacturer: MICROCHIP; Part Symbol: MCP79410-I/SN; Part Number: MCP79410; Value: MCP79410
footprint SOIC-8
pins: 1 X1, 2 X2, 3 VBAT, 4 VSS, 5 SDA, 6 SCL, 7 MFP, 8 VCC

## MECH-Molex-48099-5701
designator PCIE?  (value not drawn)  (mechanical)
PCI Express/PCI Connectors LATCH ASSY FOR MINIP CI-ENEW TYPE W/COVER; Manufacturer: Molex; Part Number: MECH-Molex-48099-5701; Value: MECH-Molex-48099-5701; Part Symbol: 48099-5701
footprint MECH-Molex-48099-5701
text: Mini PCIe Latch

## MF-LSMF300X-2
designator F?, comment 3.0A  (value not drawn)
3.0A, 6V, PTC Resettabe Fuse; Part Number: MF-LSMF300X-2; Manufacturer: BOURNS; Value: 3.0A; Part Symbol: MF-LSMF300X-2
footprint Fuse-MF-LSMF
pins: 1, 2

## Micro USB A/B TH Vert
designator X?, comment USB3106-30-0230-A
Micro USB A/B TH Vertical; Manufacturer: GLOBAL CONNECTOR TECHNOLOGY; Part Symbol: USB3105-30-A; Part Number: Micro USB A/B TH Vert; Value: USB3106-30-0230-A
footprint USB3106
pins: 1 VCC (power), 2 D-, 3 D+, 4 ID, 5 GND (power), S SHIELD

## Micro USB B
designator J?, comment Manufacturer: Molex  Part Symbol: 473460001  (hidden comment: Molex 47346-0001)
USB - micro B Receptacle Connector 5 Position Surface Mount, Right Angle, Horizontal; Part Number: CON-Molex-47346-0001; Value: Molex 47346-0001
footprint CON-Molex-047346-0001
pins: 1 VCC (power), 2 D-, 3 D+, 4 ID, 5 GND (power), S SHIELD

## Micro_SD
designator J?, comment 114-00841-68
Micro SD card holder; Part Number: AMP-114-00841-68; Manufacturer: AMPHENOL COMMERCIAL PRODUCTS; Value: 114-00841-68; Part Symbol: 114-00841-68
footprint 114-00841-68
pins: 1 DAT2, 2 CD/DAT3, 3 CMD, 4 VDD, 5 CLK, 6 VSS, 7 DAT0, 8 DAT1, 9 CD1, 10 CD2
text: SD Card

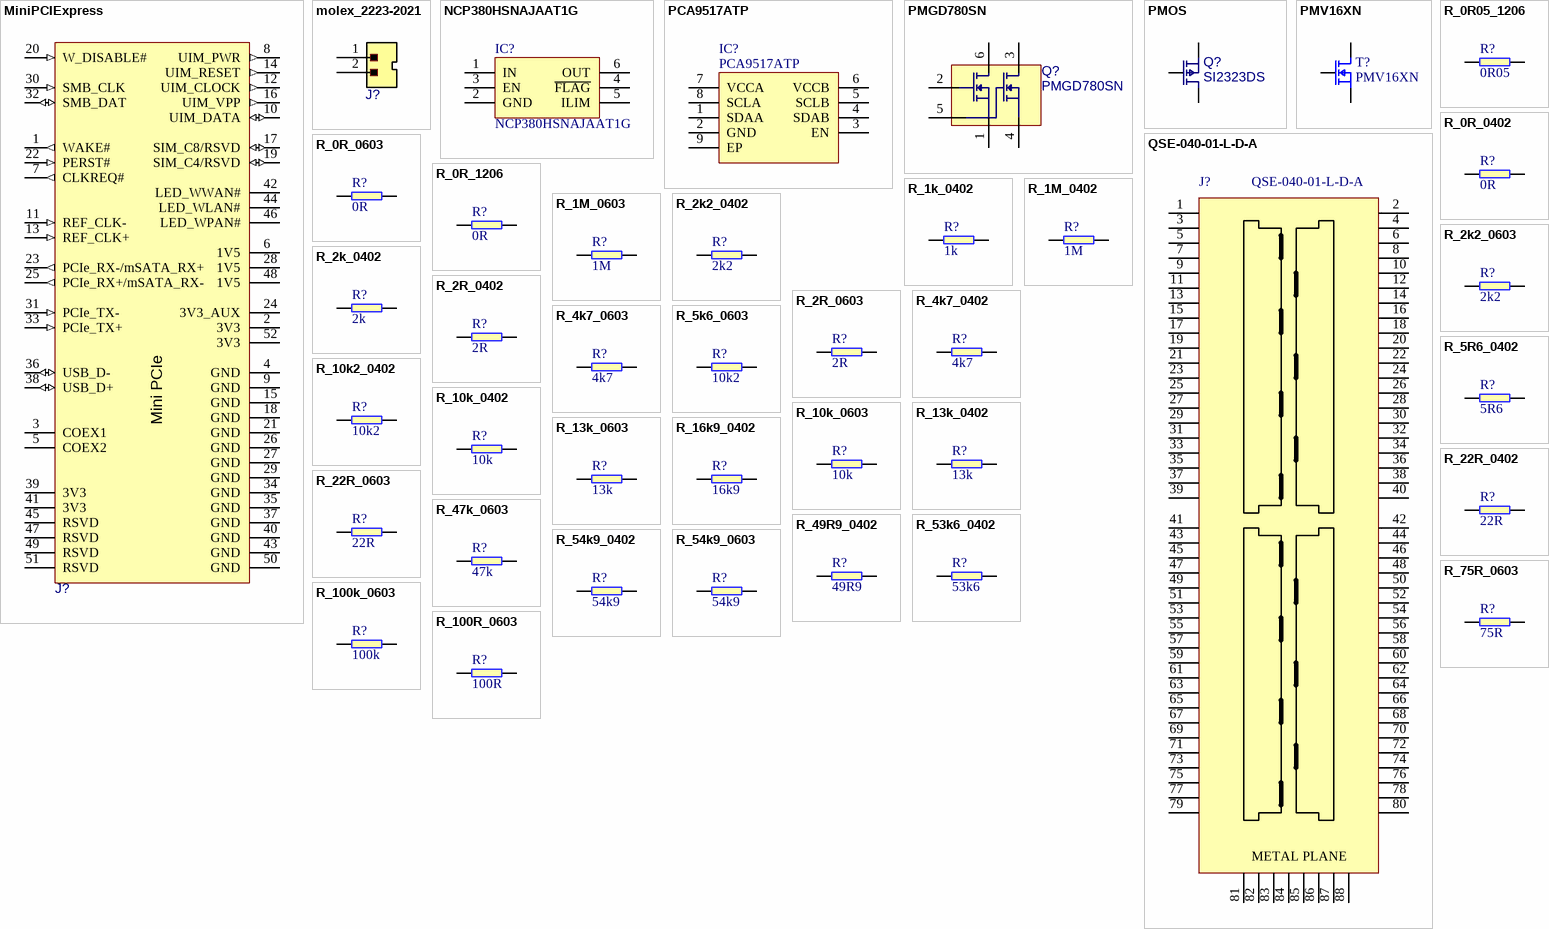
[diagram p4: symbols MiniPCIExpress to R_100R_0603]

## MiniPCIExpress
designator J?, comment 1759503-1  (value not drawn)
Mini PCI Express 8mm; Part Number: TE-1759503-1; Manufacturer: TE CONNECTIVITY; Value: 1759503-1; Part Symbol: 1759503-1
footprint 1759503-1
pins: 1 WAKE# (out), 2 3V3 (power), 3 COEX1, 4 GND (power), 5 COEX2, 6 1V5 (power), 7 CLKREQ# (out), 8 UIM_PWR (out), 9 GND (power), 10 UIM_DATA (io), 11 REF_CLK- (in), 12 UIM_CLOCK (out), 13 REF_CLK+ (in), 14 UIM_RESET (out), 15 GND (power), 16 UIM_VPP (out), 17 SIM_C8/RSVD (io), 18 GND (power), 19 SIM_C4/RSVD (io), 20 W_DISABLE# (in), 21 GND (power), 22 PERST# (in), 23 PCIe_RX-/mSATA_RX+ (out), 24 3V3_AUX (power), 25 PCIe_RX+/mSATA_RX- (out), 26 GND (power), 27 GND (power), 28 1V5 (power), 29 GND (power), 30 SMB_CLK (in), 31 PCIe_TX- (in), 32 SMB_DAT (io), 33 PCIe_TX+ (in), 34 GND (power), 35 GND (power), 36 USB_D- (io), 37 GND (power), 38 USB_D+ (io), 39 3V3, 40 GND (power), 41 3V3, 42 LED_WWAN# (oc), 43 GND (power), 44 LED_WLAN# (oc), 45 RSVD, 46 LED_WPAN# (oc), 47 RSVD, 48 1V5 (power), 49 RSVD, 50 GND (power), 51 RSVD, 52 3V3 (power)
text: Mini PCIe

## molex_2223-2021
designator J?, comment MX-22-23-2021  (value not drawn)
Pinhead connector with key; Part Number: molex_2223-2021; Manufacturer: Molex; Part Symbol: 022232021 A-6373-02A222; Value: MX-22-23-2021
footprint molex_2223-2021
pins: 1, 2

## NCP380HSNAJAAT1G
designator IC?
POWER LOAD SWITCH, HIGH SIDE; Manufacturer: ON Semiconductor; Part Number: NCP380HSNAJAAT1G; Value: NCP380HSNAJAAT1G; Part Symbol: NCP380HSNAJAAT1G
footprint TSOP-6
pins: 1 IN, 2 GND, 3 EN, 4 ~{FLAG}, 5 ILIM, 6 OUT

## PCA9517ATP
designator IC?
I2C BUS REPEATER W/ LEVEL TRANS, HWSON-8; Manufacturer: NXP; Part Number: PCA9517ATP; Value: PCA9517ATP; Part Symbol: PCA9517ATP
footprint PCA9517ATP
pins: 1 SDAA, 2 GND, 3 EN, 4 SDAB, 5 SCLB, 6 VCCB, 7 VCCA, 8 SCLA, 9 EP

## PMGD780SN
designator Q?
60 V, dual N-channel Trench MOSFET; Manufacturer: NXP; Part Symbol: PMGD780SN,115; Part Number: PMGD780SN; Value: PMGD780SN
footprint SOT-363
pins: 1 S1, 2 G1, 3 D2, 4 S2, 5 G2, 6 D1

## PMOS
designator Q?, comment SI2323DS
pMOS 4.7A 20V; Manufacturer: Vishay; Part Symbol: SI2323DS-T1-E3; Part Number: SI2323DS; Value: SI2323DS
footprint SOT-23
pins: 1 G, 2 S, 3 D

## PMV16XN
designator T?
MOSFET Transistor, N Channel, 6.8 A, 20 V, 0.016 ohm, 4.5 V; Manufacturer: NXP; Value: PMV16XN; Part Number: PMV16XN; Part Symbol: PMV16XN
footprint SOT-23 (SOT23, 3-Leads, Body 2.90x2.45mm, Pitch 0.95mm, IPC Medium Density)
pins: 1 G, 2 S, 3 D

## QSE-040-01-L-D-A
designator J?
SAMTEC 	QSE-040-01-L-D-A  Stacking Board Connector, Dual Row, QSE Series, Receptacle, 0.8 mm, 80 Contacts, Surface Mount; Part Number: QSE-040-01-L-D-A; Value: QSE-040-01-L-D-A; Manufacturer: SAMTEC; Part Symbol: QSE-040-01-L-D-A
footprint QSE-040-01-L-D-A
pins: 1, 2, 3, 4, 5, 6, 7, 8, 9, 10, 11, 12, 13, 14, 15, 16, 17, 18, 19, 20, 21, 22, 23, 24, 25, 26, 27, 28, 29, 30, 31, 32, 33, 34, 35, 36, 37, 38, 39, 40, 41, 42, 43, 44, 45, 46, 47, 48, 49, 50, 51, 52, 53, 54, 55, 56, 57, 58, 59, 60, 61, 62, 63, 64, 65, 66, 67, 68, 69, 70, 71, 72, 73, 74, 75, 76, 77, 78, 79, 80, 81, 82, 83, 84, 85, 86, 87, 88
text: METAL PLANE

## R_0R05_1206
designator R?, comment 0R05
RES, 0R05, 1206; Part Number: R_0R05_1206; Manufacturer: PANASONIC; Part Symbol: ERJL08KF50MV; Value: 0R05
footprint 1206
pins: 1, 2

## R_0R_0402
designator R?, comment 0R
RES, 0R, 0402; Part Number: R_0R_0402; Manufacturer: Panasonic; Part Symbol: ERJ2GE0R00X; Value: 0R
footprint 0402
pins: 1, 2

## R_0R_0603
designator R?, comment 0R
RES, 0R, 0603; Part Number: R_0R_0603; Manufacturer: BOURNS; Part Symbol: CR0603-J/-000ELF; Value: 0R
footprint 0603 (Chip Inductor Ferrite Bead 0603)
pins: 1, 2

## R_0R_1206
designator R?, comment 0R
RES, 0R, 1206; PartNumber: R_0R_1206; Manufacturer: MULTICOMP; PartSymbol: MCMR12X000 PTL; Value: 0R
footprint 1206
pins: 1, 2

## R_1k_0402
designator R?, comment 1k
RES, 1k, 0402; PartNumber: R_1k_0402; Manufacturer: BOURNS; PartSymbol: CR0402-FX-1001GLF; Value: 1k
footprint 0402
pins: 1, 2

## R_1M_0402
designator R?, comment 1M
RES, 1M, 0402; Part Number: R_1M_0402; Manufacturer: VISHAY; Part Symbol: CRCW04021M00FKED; Value: 1M
footprint 0402
pins: 1, 2

## R_1M_0603
designator R?, comment 1M
RES, 1M, 0603; PartNumber: R_1M_0603; Manufacturer: BOURNS; PartSymbol: CR0603-JW-105GLF; Value: 1M
footprint 0603 (Chip Inductor Ferrite Bead 0603)
pins: 1, 2

## R_2k2_0402
designator R?, comment 2k2
RES, 2k2, 0402; PartNumber: R_2k2_0402; Manufacturer: MULTICOMP; PartSymbol: MCWR04X2201FTL; Value: 2k2
footprint 0402
pins: 1, 2

## R_2k2_0603
designator R?, comment 2k2
RES, 2k2, 0603; PartNumber: R_2k2_0603; Manufacturer: MULTICOMP; PartSymbol: MCMR06X2201FTL; Value: 2k2
footprint 0603 (Chip Inductor Ferrite Bead 0603)
pins: 1, 2

## R_2k_0402
designator R?, comment 2k
RES, 2k, 0402; PartNumber: R_2k_0402; Manufacturer: VISHAY; PartSymbol: CRCW04022K00FKED; Value: 2k
footprint 0402
pins: 1, 2

## R_2R_0402
designator R?, comment 2R
RES, 2R, 0402; Part Number: R_2R_0402; Manufacturer: YAGEO; Part Symbol: MC00625W040212R0; Value: 2R
footprint 0402
pins: 1, 2

## R_2R_0603
designator R?, comment 2R
RES, 2R, 0603; PartNumber: R_2R_0603; Manufacturer: MULTICOMP; PartSymbol: MCSR06W2R00FTL; Value: 2R
footprint 0603 (Chip Inductor Ferrite Bead 0603)
pins: 1, 2

## R_4k7_0402
designator R?, comment 4k7
RES, 4k7, 0402; Part Number: R_4k7_0402; Manufacturer: Panasonic; Part Symbol: ERJ2GEJ472X; Value: 4k7
footprint 0402
pins: 1, 2

## R_4k7_0603
designator R?, comment 4k7
RES, 4k7, 0603; PartNumber: R_4k7_0603; Manufacturer: BOURNS; PartSymbol: CR0603-FX-4701ELF; Value: 4k7
footprint 0603 (Chip Inductor Ferrite Bead 0603)
pins: 1, 2

## R_5k6_0603
designator R?, comment 10k2
RES, 5k6, 0603; PartNumber: R_5k6_0603; Manufacturer: Panasonic; PartSymbol: ERJ3GEYJ562V; Value: 10k2
footprint 0603 (Chip Inductor Ferrite Bead 0603)
pins: 1, 2

## R_5R6_0402
designator R?, comment 5R6
RES, 5R6, 0402; PartNumber: R_5R6_0402; Manufacturer: Panasonic; PartSymbol: ERJ2GEJ5R6X; Value: 5R6
footprint 0402
pins: 1, 2

## R_10k2_0402
designator R?, comment 10k2
RES, 10k2, 0402, 0.1%; PartNumber: R_10k2_0402_0.1%; Manufacturer: TE CONECTIVITY; PartSymbol: CPF0402B10K2E1; Tolerance: 0.1%; Value: 10k2
footprint 0402
pins: 1, 2

## R_10k_0402
designator R?, comment 10k
RES, 10k, 0402; Part Number: R_10k_0402; Manufacturer: MULTICOMP; Part Symbol: MCMR04X1002FTL; Value: 10k
footprint 0402
pins: 1, 2

## R_10k_0603
designator R?, comment 10k
RES, 10k, 0603; PartNumber: R_10k_0603; Manufacturer: BOURNS; PartSymbol: CR0603-JW-103ELF; Value: 10k
footprint 0603 (Chip Inductor Ferrite Bead 0603)
pins: 1, 2

## R_13k_0402
designator R?, comment 13k
RES, 13k, 0402; Part Number: R_13k_0402; Manufacturer: Panasonic; Part Symbol: ERJ2GEJ133X; Value: 13k
footprint 0402
pins: 1, 2

## R_13k_0603
designator R?, comment 13k
RES, 13k, 0603; PartNumber: R_13k_0603; Manufacturer: PANASONIC ELECTRONIC COMPONENTS; PartSymbol: ERJ3GEYJ133V; Value: 13k
footprint 0603 (Chip Inductor Ferrite Bead 0603)
pins: 1, 2

## R_16k9_0402
designator R?, comment 16k9
RES, 16k9, 0402; PartNumber: R_16k9_0402; Manufacturer: Panasonic; PartSymbol: ERA2AEB1692X; Value: 16k9
footprint 0402
pins: 1, 2

## R_22R_0402
designator R?, comment 22R
RES, 22R, 0402; Part Number: R_22R_0402; Manufacturer: VISHAY; Part Symbol: CRCW040222R0FKED; Value: 22R
footprint 0402
pins: 1, 2

## R_22R_0603
designator R?, comment 22R
RES, 22R, 0603; PartNumber: R_22R_0603; Manufacturer: BOURNS; PartSymbol: CR0603-JW-220GLF; Value: 22R
footprint 0603 (Chip Inductor Ferrite Bead 0603)
pins: 1, 2

## R_47k_0603
designator R?, comment 47k
RES, 47k, 0603; PartNumber: R_47k_0603; Manufacturer: MULTICOMP; PartSymbol: MCWR06X4702FTL; Value: 47k
footprint 0603 (Chip Inductor Ferrite Bead 0603)
pins: 1, 2

## R_49R9_0402
designator R?, comment 49R9
RES, 49R9, 0402; PartNumber: R_49R9_0402; Manufacturer: VISHAY; PartSymbol: CRCW040249R9FKED; Value: 49R9
footprint 0402
pins: 1, 2

## R_53k6_0402
designator R?, comment 53k6
RES, 53k6, 0402; Part Number: R_53k6_0402; Manufacturer: TE CONECTIVITY; Part Symbol: CPF0402B53K6E1; Value: 53k6
footprint 0402
pins: 1, 2

## R_54k9_0402
designator R?, comment 54k9
RES, 54k9, 0402; Part Number: R_54k9_0402; Manufacturer: MULTICOMP; Part Symbol: MCMR04X5492FTL; Value: 54k9
footprint 0402
pins: 1, 2

## R_54k9_0603
designator R?, comment 54k9
RES, 54k9, 0603; Part Number: R_54k9_0603; Manufacturer: PANASONIC ELECTRONIC COMPONENTS; Part Symbol: ERJ3EKF5492V; Value: 54k9
footprint 0603 (Chip Inductor Ferrite Bead 0603)
pins: 1, 2

## R_75R_0603
designator R?, comment 75R
RES, 75R, 0603; PartNumber: R_75R_0603; Manufacturer: MULTICOMP; PartSymbol: MCWR06X75R0FTL; Value: 75R
footprint 0603 (Chip Inductor Ferrite Bead 0603)
pins: 1, 2

## R_100k_0603
designator R?, comment 100k
RES, 100k, 0603; PartNumber: R_100k_0603; Manufacturer: BOURNS; PartSymbol: CR0603-FX-1003HLF; Value: 100k
footprint 0603 (Chip Inductor Ferrite Bead 0603)
pins: 1, 2

## R_100R_0603
designator R?, comment 100R
RES, 100R, 0603; PartNumber: R_100R_0603; Manufacturer: MULTICOMP; PartSymbol: MC0063W06035100R; Value: 100R
footprint 0603 (Chip Inductor Ferrite Bead 0603)
pins: 1, 2

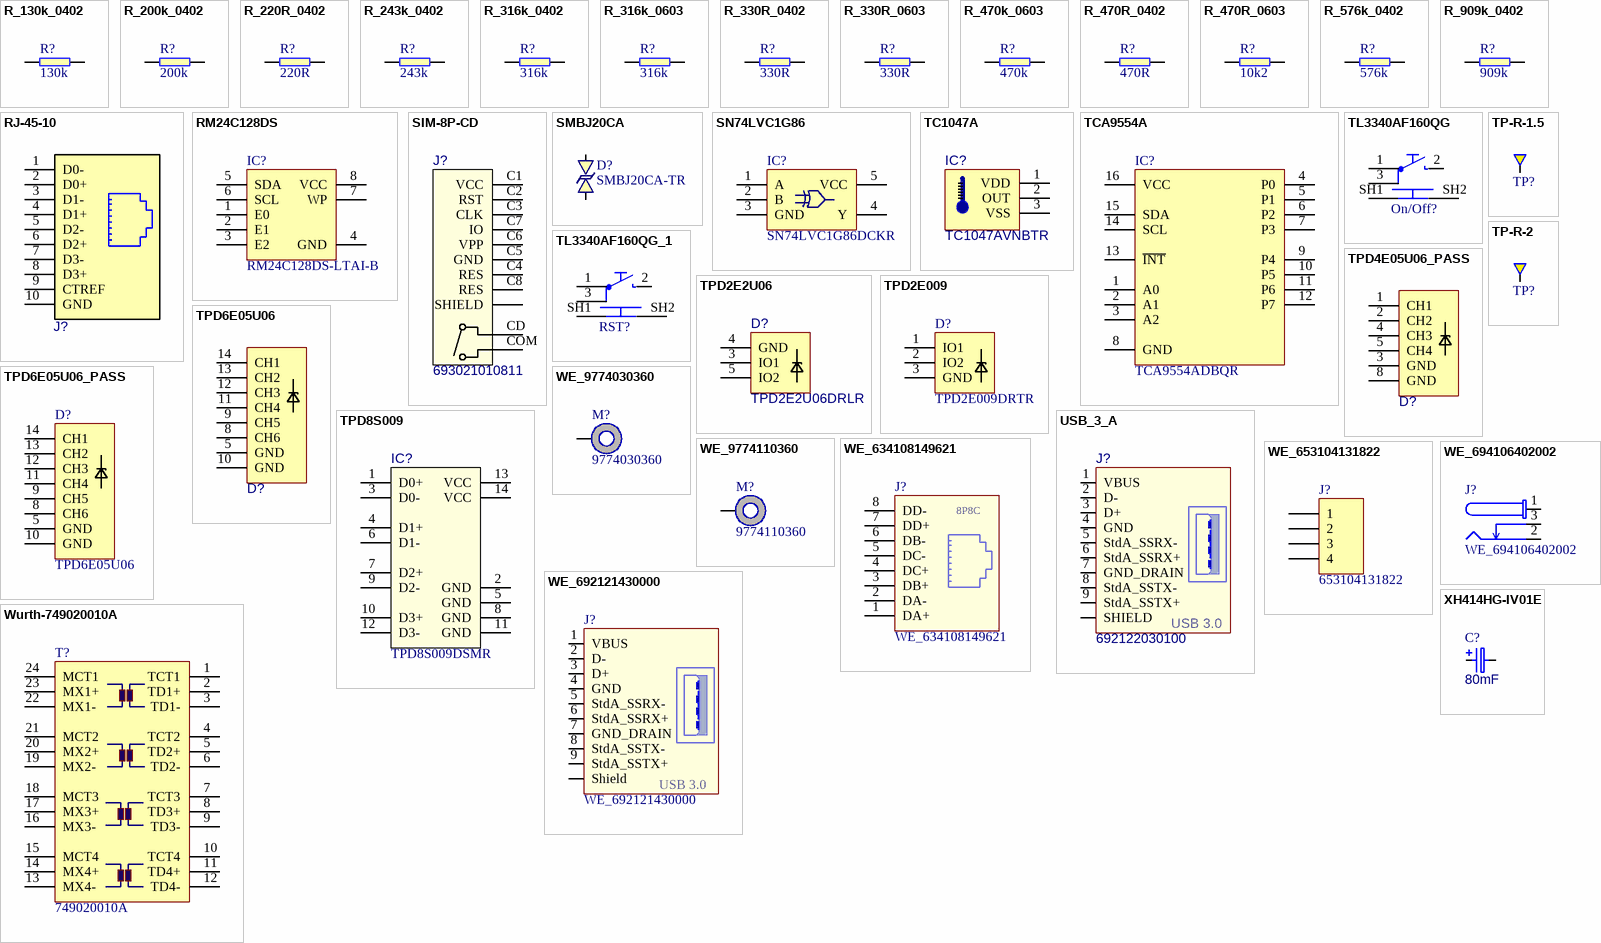
[diagram p5: symbols R_130k_0402 to XH414HG-IV01E]

## R_130k_0402
designator R?, comment 130k
RES, 130k, 0402; Part Number: R_130k_0402; Manufacturer: MULTICOMP; Part Symbol: MCMR04X1303FTL; Value: 130k
footprint 0402
pins: 1, 2

## R_200k_0402
designator R?, comment 200k
RES, 200k, 0402; PartNumber: R_200k_0402; Manufacturer: YAGEO; PartSymbol: RC0402FR-07200KL; Value: 200k
footprint 0402
pins: 1, 2

## R_220R_0402
designator R?, comment 220R
RES, 220R, 0402; PartNumber: R_220R_0402; Manufacturer: TE CONECTIVITY; PartSymbol: CRG0402J220R; Value: 220R
footprint 0402
pins: 1, 2

## R_243k_0402
designator R?, comment 243k
RES, 243k, 0402; PartNumber: R_243k_0402; Manufacturer: MULTICOMP; PartSymbol: MCMR04X2433FTL; Value: 243k
footprint 0402
pins: 1, 2

## R_316k_0402
designator R?, comment 316k
RES, 316k, 0402; Part Number: R_316k_0402; Manufacturer: VISHAY; Part Symbol: CRCW0402316KFKED; Value: 316k
footprint 0402
pins: 1, 2

## R_316k_0603
designator R?, comment 316k
RES, 316k, 0603; PartNumber: R_316k_0603; Manufacturer: MULTICOMP; PartSymbol: MC0063W06031316K; Value: 316k
footprint 0603 (Chip Inductor Ferrite Bead 0603)
pins: 1, 2

## R_330R_0402
designator R?, comment 330R
RES, 330R, 0402; Part Number: R_330R_0402; Manufacturer: MULTICOMP; Part Symbol: MCMR04X3300FTL; Value: 330R
footprint 0402
pins: 1, 2

## R_330R_0603
designator R?, comment 330R
RES, 330R, 0603; PartNumber: R_330R_0603; Manufacturer: BOURNS; PartSymbol: CR0603-FX-3300GLF; Value: 330R
footprint 0603 (Chip Inductor Ferrite Bead 0603)
pins: 1, 2

## R_470k_0603
designator R?, comment 470k
RES, 470k, 0603; PartNumber: R_470k_0603; Manufacturer: VISHAY; PartSymbol: CRCW0603470KFKEA; Value: 470k
footprint 0603 (Chip Inductor Ferrite Bead 0603)
pins: 1, 2

## R_470R_0402
designator R?, comment 470R
RES, 470R, 0402; Part Number: R_470R_0402; Manufacturer: VISHAY; Part Symbol: CRCW0402470RFKED.; Value: 470R
footprint 0402
pins: 1, 2

## R_470R_0603
designator R?, comment 10k2
RES, 470R, 0603; PartNumber: R_470R_0603; Manufacturer: BOURNS; PartSymbol: CR0603-JW-471GLF; Tolerance: 0.1%; Value: 10k2
footprint 0603 (Chip Inductor Ferrite Bead 0603)
pins: 1, 2

## R_576k_0402
designator R?, comment 576k
RES, 576k, 0402; Part Number: R_576k_0402; Manufacturer: MULTICOMP; Part Symbol: MCMR04X5763FTL; Value: 576k
footprint 0402
pins: 1, 2

## R_909k_0402
designator R?, comment 909k
RES, 909k, 0402; PartNumber: R_909k_0402; Manufacturer: Panasonic; PartSymbol: ERJ2RKF9093X; Value: 909k
footprint 0402
pins: 1, 2

## RJ-45-10
designator J?, comment 7498111001A  (value not drawn)
RJ-45 with Transofrmer, 10/100/1000 Base-T; Manufacturer: WURTH ELEKTRONIK; Part Number: WE-749-811-100-1A; Value: 7498111001A; Part Symbol: 7498111001A
footprint 7498111001A
pins: 1 D0-, 2 D0+, 3 D1-, 4 D1+, 5 D2-, 6 D2+, 7 D3-, 8 D3+, 9 CTREF, 10 GND

## RM24C128DS
designator IC?, comment RM24C128DS-LTAI-B
EEPROM with UID and OTP registers.; Manufacturer: Adesto; Part Number: RM24C128DS; Value: RM24C128DS-LTAI-B; Part Symbol: RM24C128DS-LTAI-B
footprint TSSOP-8
pins: 1 E0, 2 E1, 3 E2, 4 GND, 5 SDA, 6 SCL, 7 WP, 8 VCC

## SIM-8P-CD
designator J?, comment 693021010811
Micro SIM Card Connector WR-CRD, Push & Push - with Card Detection; Manufacturer: WURTH ELEKTRONIK; Part Number: WE-693-021-010-811; Value: 693021010811; Part Symbol: 693021010811
footprint 693021010811
pins: C1 VCC, C2 RST, C3 CLK, C4 RES, C5 GND, C6 VPP, C7 IO, C8 RES, CD, COM, SHIELD

## SMBJ20CA
designator D?, comment SMBJ20CA-TR
DIODE, TVS, 20V, 600W; Manufacturer: STMICROELECTRONICS; Part Number: SMBJ20CA; Value: SMBJ20CA-TR; Part Symbol: SMBJ20CA-TR
footprint DO-214AA
pins: A, C

## SN74LVC1G86
designator IC?, comment SN74LVC1G86DCKR
2 input XOR gate; Manufacturer: Texas Instruments; Part Number: SN74LVC1G86DCKR; Value: SN74LVC1G86DCKR; Part Symbol: SN74LVC1G86DCKR
footprint SC70-5
pins: 1 A, 2 B, 3 GND, 4 Y, 5 VCC

## TC1047A
designator IC?, comment TC1047AVNBTR
Precision Temperature-to-Voltage Converter; Manufacturer: MICROCHIP; Part Number: TC1047A; Value: TC1047AVNBTR; Part Symbol: TC1047AVNBTR
footprint SOT-23
pins: 1 VDD, 2 OUT, 3 VSS

## TCA9554A
designator IC?, comment TCA9554ADBQR
Remote 8bit I2C SMBus I/O expander; Manufacturer: Texas Instruments; Part Number: TCA9554ADBQR; Value: TCA9554ADBQR; Part Symbol: TCA9554ADBQR
footprint DBQ0016A
pins: 1 A0, 2 A1, 3 A2, 4 P0, 5 P1, 6 P2, 7 P3, 8 GND, 9 P4, 10 P5, 11 P6, 12 P7, 13 ~{INT}, 14 SCL, 15 SDA, 16 VCC

## TL3340AF160QG
designator On/Off?  (value not drawn)
E-SWITCH  TL3340AF160QG  SWITCH, TACTILE SPST 50mA, SMD GULL WING; Part Number: TL3340AF160QG; Value: TL3340AF160QG; Manufacturer: E-SWITCH; Part Symbol: TL3340AF160QG
footprint TL3340AF160QG
pins: 1, 2, 3, SH1, SH2

## TL3340AF160QG_1
designator RST?, comment TL3340AF160QG  (value not drawn)
E-SWITCH  TL3340AF160QG  SWITCH, TACTILE SPST 50mA, SMD GULL WING; Part Number: TL3340AF160QG; Value: TL3340AF160QG; Manufacturer: E-SWITCH; Part Symbol: TL3340AF160QG
footprint TL3340AF160QG
pins: 1, 2, 3, SH1, SH2

## TP-R-1.5
designator TP?  (no BOM)
Testpad, round, 1.5mm; Part Number: TP-R-1.5
footprint TP-R-1.5
pins: 1

## TP-R-2
designator TP?  (no BOM)
Testpad, round, 2mm; Part Number: TP-R-2
footprint TP-R-2
pins: 1

## TPD2E2U06
designator D?, comment TPD2E2U06DRLR
ESD Suppressors 2-CH; Manufacturer: Texas Instruments; Part Number: TPD2E2U06; Value: TPD2E2U06DRLR; Part Symbol: TPD2E2U06DRLR
footprint TPD2E2U06DRLR
pins: 3 IO1, 4 GND, 5 IO2

## TPD2E009
designator D?, comment TPD2E009DRTR
ESD Suppressors 2-CH; Manufacturer: Texas Instruments; Part Number: TPD2E009DRTR; Value: TPD2E009DRTR; Part Symbol: TPD2E009DRTR
footprint SOT-3
pins: 1 IO1, 2 IO2, 3 GND

## TPD4E05U06_PASS
designator D?, comment TPD4E05U06  (value not drawn)
ESD Suppressors 4-CH; Part Number: TPD4E05U06_PASS; Manufacturer: Texas Instruments; Part Symbol: TPD4E05U06DQAR; Value: TPD4E05U06
footprint TPD4E05U06_PASS
pins: 1 CH1, 2 CH2, 3 GND, 4 CH3, 5 CH4, 8 GND

## TPD6E05U06
designator D?  (value not drawn)
ESD Suppressors 6-CH Pass through layout; Part Number: TPD6E05U06_PASS; Manufacturer: Texas Instruments; Part Symbol: TPD6E05U06RVZR; Value: TPD6E05U06
footprint TPD6E05U06_PASS
pins: 5 GND, 8 CH6, 9 CH5, 10 GND, 11 CH4, 12 CH3, 13 CH2, 14 CH1

## TPD6E05U06_PASS
designator D?, comment TPD6E05U06
ESD Suppressors 6-CH Pass through layout; Part Number: TPD6E05U06_PASS; Manufacturer: Texas Instruments; Part Symbol: TPD6E05U06RVZR; Value: TPD6E05U06
footprint TPD6E05U06_PASS
pins: 5 GND, 8 CH6, 9 CH5, 10 GND, 11 CH4, 12 CH3, 13 CH2, 14 CH1

## TPD8S009
designator IC?  Part Symbol: TPD8S009DSMR  (hidden comment: TPD8S009)
8-Channel ESD Protection for DisplayPort and HDMI; Manufacturer: TEXAS INSTRUMENTS; Part Number: TPD8S009; Value: TPD8S009
footprint SON-15
pins: 1 D0+, 2 GND, 3 D0-, 4 D1+, 5 GND, 6 D1-, 7 D2+, 8 GND, 9 D2-, 10 D3+, 11 GND, 12 D3-, 13 VCC, 14 VCC
1 alternate drawing of the same symbol

## USB_3_A
designator J?, comment 692122030100
USB 3.0 Type A Horizontal SMD WR-COM; Manufacturer: WURTH ELEKTRONIK; Part Number: WE-692-122-030-100; Value: 692122030100; Part Symbol: 692122030100
footprint 692122030100
pins: 1 VBUS, 2 D-, 3 D+, 4 GND, 5 StdA_SSRX-, 6 StdA_SSRX+, 7 GND_DRAIN, 8 StdA_SSTX-, 9 StdA_SSTX+, SHIELD
text: USB 3.0

## WE_9774030360
designator M?, comment 9774030360
M3x3; Part Number: WE_9774030360; Manufacturer: WURTH ELEKTRONIK; Value: 9774030360; Part Symbol: 9774030360
footprint M3-3mm
pins: 1

## WE_9774110360
designator M?, comment 9774110360
M3x11.6; Part Number: WE_9774110360; Manufacturer: WURTH ELEKTRONIK; Value: 9774110360; Part Symbol: 9774110360
footprint WE_9774110360 (Standoffs & Spacers WA-SMSI SMD Steel Spacer M3 6mm)
pins: 1

## WE_634108149621
designator J?
Modular Connectors / Ethernet Connectors WR-MJ Mod Jk 8P8C Solder Tab w/Mylar; Manufacturer: WURTH ELEKTRONIK; Part Number: WE_634108149621; Value: WE_634108149621; Part Symbol: 634108149621
footprint WE_634108149621
pins: 1 DA+, 2 DA-, 3 DB+, 4 DC+, 5 DC-, 6 DB-, 7 DD+, 8 DD-
text: 8P8C

## WE_653104131822
designator J?, comment 653104131822
HEADER 4POS MALE HORIZ 1.25MM SMD; Part Number: WE_653104131822; Manufacturer: WURTH ELEKTRONIK; Value: 653104131822; Part Symbol: 653104131822
footprint WE_653104131822
pins: 1, 2, 3, 4

## WE_692121430000
designator J?
WURTH ELEKTRONIK 	692121430000  USB Connector, USB Type A, USB 3.0, Receptacle, 9 Ways, PCB Mount, Vertical; Part Number: WE_692121430000; Value: WE_692121430000; Manufacturer: WURTH ELEKTRONIK; Part Symbol: 692121430000
footprint WE_692121430000
pins: 1 VBUS, 2 D-, 3 D+, 4 GND, 5 StdA_SSRX-, 6 StdA_SSRX+, 7 GND_DRAIN, 8 StdA_SSTX-, 9 StdA_SSTX+, Z1 Shield
text: USB 3.0

## WE_694106402002
designator J?
WURTH ELEKTRONIK 	694106402002  POWER ENTRY, JACK, 2MM, VERTICAL THT, 3A; Part Number: WE_694106402002; Value: WE_694106402002; Manufacturer: WURTH ELEKTRONIK; Part Symbol: 694106402002
footprint WE_694106402002
pins: 1 (power), 2 (power), 3 (power)

## Wurth-749020010A
designator T?, comment 749020010A
LAN TRANSFORMER, 10/100/1000 BASE-T; Part Number: Wurth-749020010A; Manufacturer: WURTH ELEKTRONIK; Value: 749020010A; Part Symbol: 749020010A
footprint Wurth-749020010A
pins: 1 TCT1, 2 TD1+, 3 TD1-, 4 TCT2, 5 TD2+, 6 TD2-, 7 TCT3, 8 TD3+, 9 TD3-, 10 TCT4, 11 TD4+, 12 TD4-, 13 MX4-, 14 MX4+, 15 MCT4, 16 MX3-, 17 MX3+, 18 MCT3, 19 MX2-, 20 MX2+, 21 MCT2, 22 MX1-, 23 MX1+, 24 MCT1

## XH414HG-IV01E
designator C?, comment 80mF
CAP 80MF 3.3V SURFACE MOUNT; Part Number: XH414HG-IV01E; Manufacturer: SEIKO; Part Symbol: XH414HG-IV01E; Value: 80mF
footprint XH414HG-IV01E
pins: 1, 2
1 alternate drawing of the same symbol